# Altium schematic symbol library KwantLib.SchLib: 323 symbols (part 2 of 3)
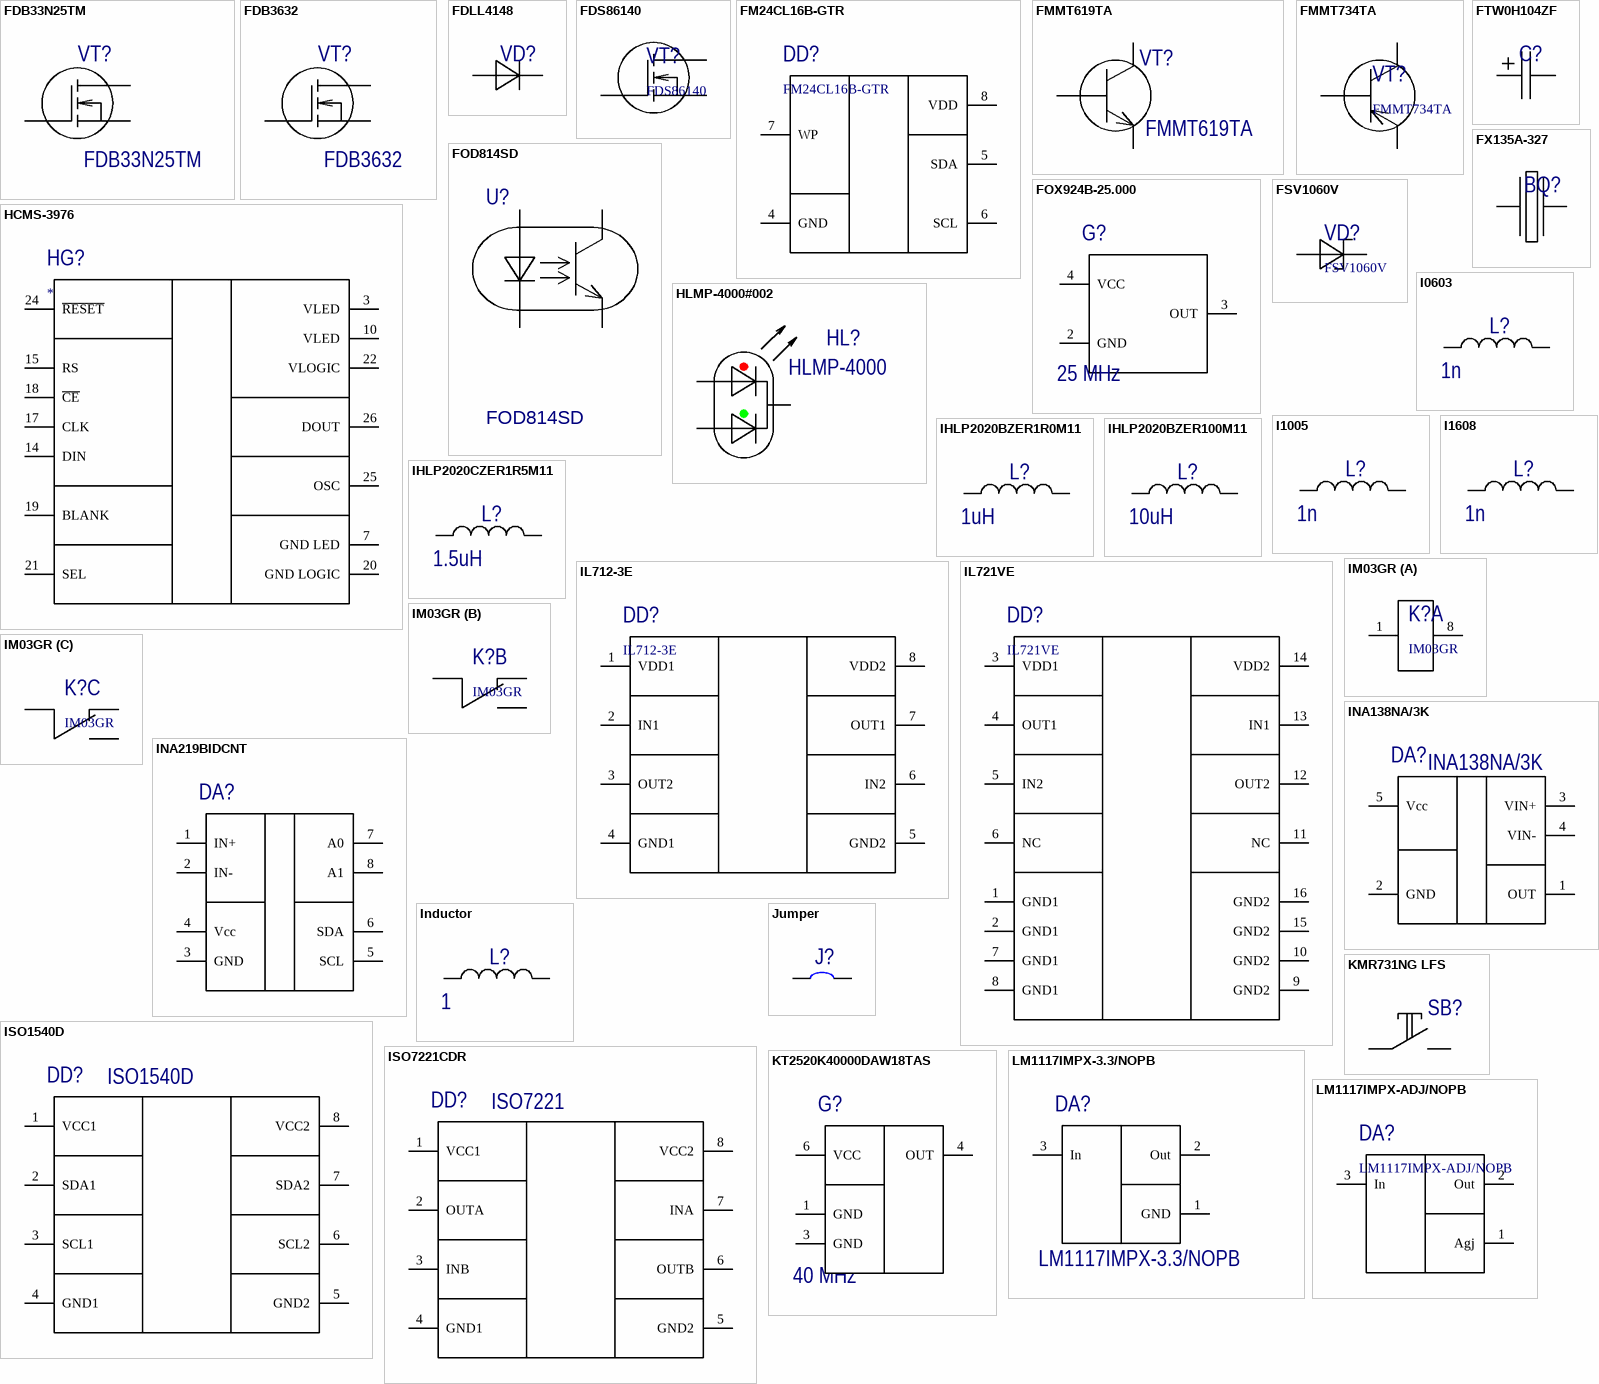
[diagram p17: symbols FDB33N25TM to LM1117IMPX-ADJ/NOPB]

## IHLP2020CZER1R5M11
designator L?  value 1.5uH  (hidden comment: IHLP2020CZER1R5M11)
1.5 uH Inductor Vishai; Tolerance: ±5%; Current: *; PartNo: IHLP2020CZER1R5M11; Supplier 1: Digi-Key; Supplier Part Number 1: 541-1235-1-ND
footprint IHLP2020CZ
pins: 1, 2

## IL712-3E
designator DD?
Цифровой изолятор; PartNo: IL712-3E; Supplier 1: Digi-Key; Supplier Part Number 1: 390-1061-5-ND
footprint SOIC127P600X175-8N (SOIC, 8-Leads, Body 4.90x3.90mm, Pitch 1.27mm, IPC Medium Density)
pins: 1 VDD1 (power), 2 IN1, 3 OUT2, 4 GND1, 5 GND2 (power), 6 IN2, 7 OUT1, 8 VDD2 (power)

## IL721VE
designator DD?
Цифровой изолятор; PartNo: *; Supplier 1: Digi-Key; Supplier Part Number 1: 390-1171-5-ND
footprint SOIC127P1030X250-16N (SOIC, 16-Leads, Body 10.29x7.50mm, Pitch 1.27mm, IPC Medium Density)
pins: 1 GND1, 2 GND1, 3 VDD1, 4 OUT1, 5 IN2, 6 NC, 7 GND1, 8 GND1, 9 GND2, 10 GND2, 11 NC, 12 OUT2, 13 IN1, 14 VDD2, 15 GND2, 16 GND2

## IM03GR
designator K?
Реле сигнальное. 5В, 2А-250VAC; Supplier 1: Digi-Key; Supplier Part Number 1: PB1061CT-ND; PartNo: IM03GR
footprint IM03GR (Signal Relay)
part A pins: 1, 8
part B pins: 2, 3, 4
part C pins: 5, 6, 7

## INA138NA/3K
designator DA?
High-Side Measurement Current Shunt Monitor; PartNo: INA138NA/3K; Supplier 1: Digi-Key; Supplier Part Number 1: 296-17936-1-ND
footprint SOT95P280X145-5N (SOT23, 5-Leads, Body 2.90x2.80mm, Pitch 0.95mm, IPC Medium Density)
pins: 1 OUT, 2 GND, 3 VIN+, 4 VIN-, 5 Vcc

## INA219BIDCNT
designator DA?  (value not drawn)
Bidirectional Current/Power Monitor With I2C Interface; PartNo: INA219BIDCNT; Supplier 1: Digi-Key; Supplier Part Number 1: 296-27898-1-ND
footprint SOT23-8 (SOT23, 8-Leads, Body 2.90x2.80mm, Pitch 0.65mm, IPC Medium Density)
pins: 1 IN+, 2 IN-, 3 GND, 4 Vcc, 5 SCL, 6 SDA, 7 A0, 8 A1

## Inductor
designator L?  value 1  (hidden comment: *)
Current: *
pins: 1, 2

## ISO1540D
designator DD?
Цифровой изолятор I2C; PartNo: ISO1540D; Supplier 1: Digi-Key; Supplier Part Number 1: 296-34896-5-ND
footprint SOIC127P600X175-8N (SOIC, 8-Leads, Body 4.90x3.90mm, Pitch 1.27mm, IPC Medium Density)
pins: 1 VCC1 (power), 2 SDA1, 3 SCL1, 4 GND1, 5 GND2 (power), 6 SCL2, 7 SDA2, 8 VCC2 (power)

## ISO7221CDR
designator DD?, comment ISO7221
Цифровой изолятор; PartNo: ISO7221CDR; Supplier 1: Digi-Key; Supplier Part Number 1: 296-21956-1-ND
footprint SOIC127P600X175-8N (SOIC, 8-Leads, Body 4.90x3.90mm, Pitch 1.27mm, IPC Medium Density)
pins: 1 VCC1 (power), 2 OUTA, 3 INB, 4 GND1, 5 GND2 (power), 6 OUTB, 7 INA, 8 VCC2 (power)
1 alternate drawing of the same symbol

## Jumper
designator J?  (value not drawn)
footprint Jumper_5
footprint Jumper_6
footprint Jumper_7
footprint Jumper_8
footprint Jumper_9
footprint Jumper_10
footprint Jumper_11
footprint Jumper_12
footprint Jumper_13
footprint Jumper_14
footprint Jumper_15
footprint Jumper_16
footprint Jumper_17
footprint Jumper_18
footprint Jumper_19
footprint Jumper_20
footprint Jumper_31mm smd
footprint Jumper_29mm smd
footprint Jumper_30mm smd
pins: 1, 2

## KMR731NG LFS
designator SB?  (value not drawn)
Tactile Switch SPST-NO Top Actuated Surface Mount Description Tactile Switch SPST-NO Top Actuated Surface Mount; Manufacturer: ITT C&K; Mechanical Life: 150000Cycles; Illumination Type: Non-Illuminated; Operating Force: 300gf; Throw Configuration: SPST; Switch Function: Off-Mom; Actuator Type: Standard; Ratings: Dust Tight,IP67,Waterproof; Supplier 1: Digi-Key; Manufacturer Part Number: KMR731NGLFS; Stock 1: 0; Mount: Surface Mount; Min Operating Temperature: -40°C; Max Operating Temperature: 85°C; Packaging: Tape and Reel; Termination: Gull Wing; Supplier Part Number 1: CKN10687CT-ND; РКД Наименование: *
footprint KMR7 (Tactile button)
pins: 1, 2

## KT2520K40000DAW18TAS
designator G?  value 40 MHz  (hidden comment: KT2520K40000DAW18TAS)
TCXO 40 MHz; PartNo: KT2520K40000DAW18TAS; Supplier 1: Digi-Key; Supplier Part Number 1: 1253-1426-1-ND
footprint KT2520 (TCXO)
pins: 1 GND, 3 GND, 4 OUT, 6 VCC

## LM1117IMPX-3.3/NOPB
designator DA?
Positive voltage regulator; PartNo: *; Supplier 1: Digi-Key; Supplier Part Number 1: LM1117IMPX-3.3J/NOPBCT-ND
footprint SOT230P700X180-4N (SOT223, 4-Leads, Body 6.50x7.00mm (avg), Pitch 2.30mm, IPC Medium Density)
pins: 1 GND, 2 Out, 3 In

## LM1117IMPX-ADJ/NOPB
designator DA?
Positive voltage regulator; PartNo: *; Supplier 1: Digi-Key; Supplier Part Number 1: LM1117IMPX-ADJ/NOPBCT-ND
footprint SOT230P700X180-4N (SOT223, 4-Leads, Body 6.50x7.00mm (avg), Pitch 2.30mm, IPC Medium Density)
pins: 1 Agj, 2 Out, 3 In

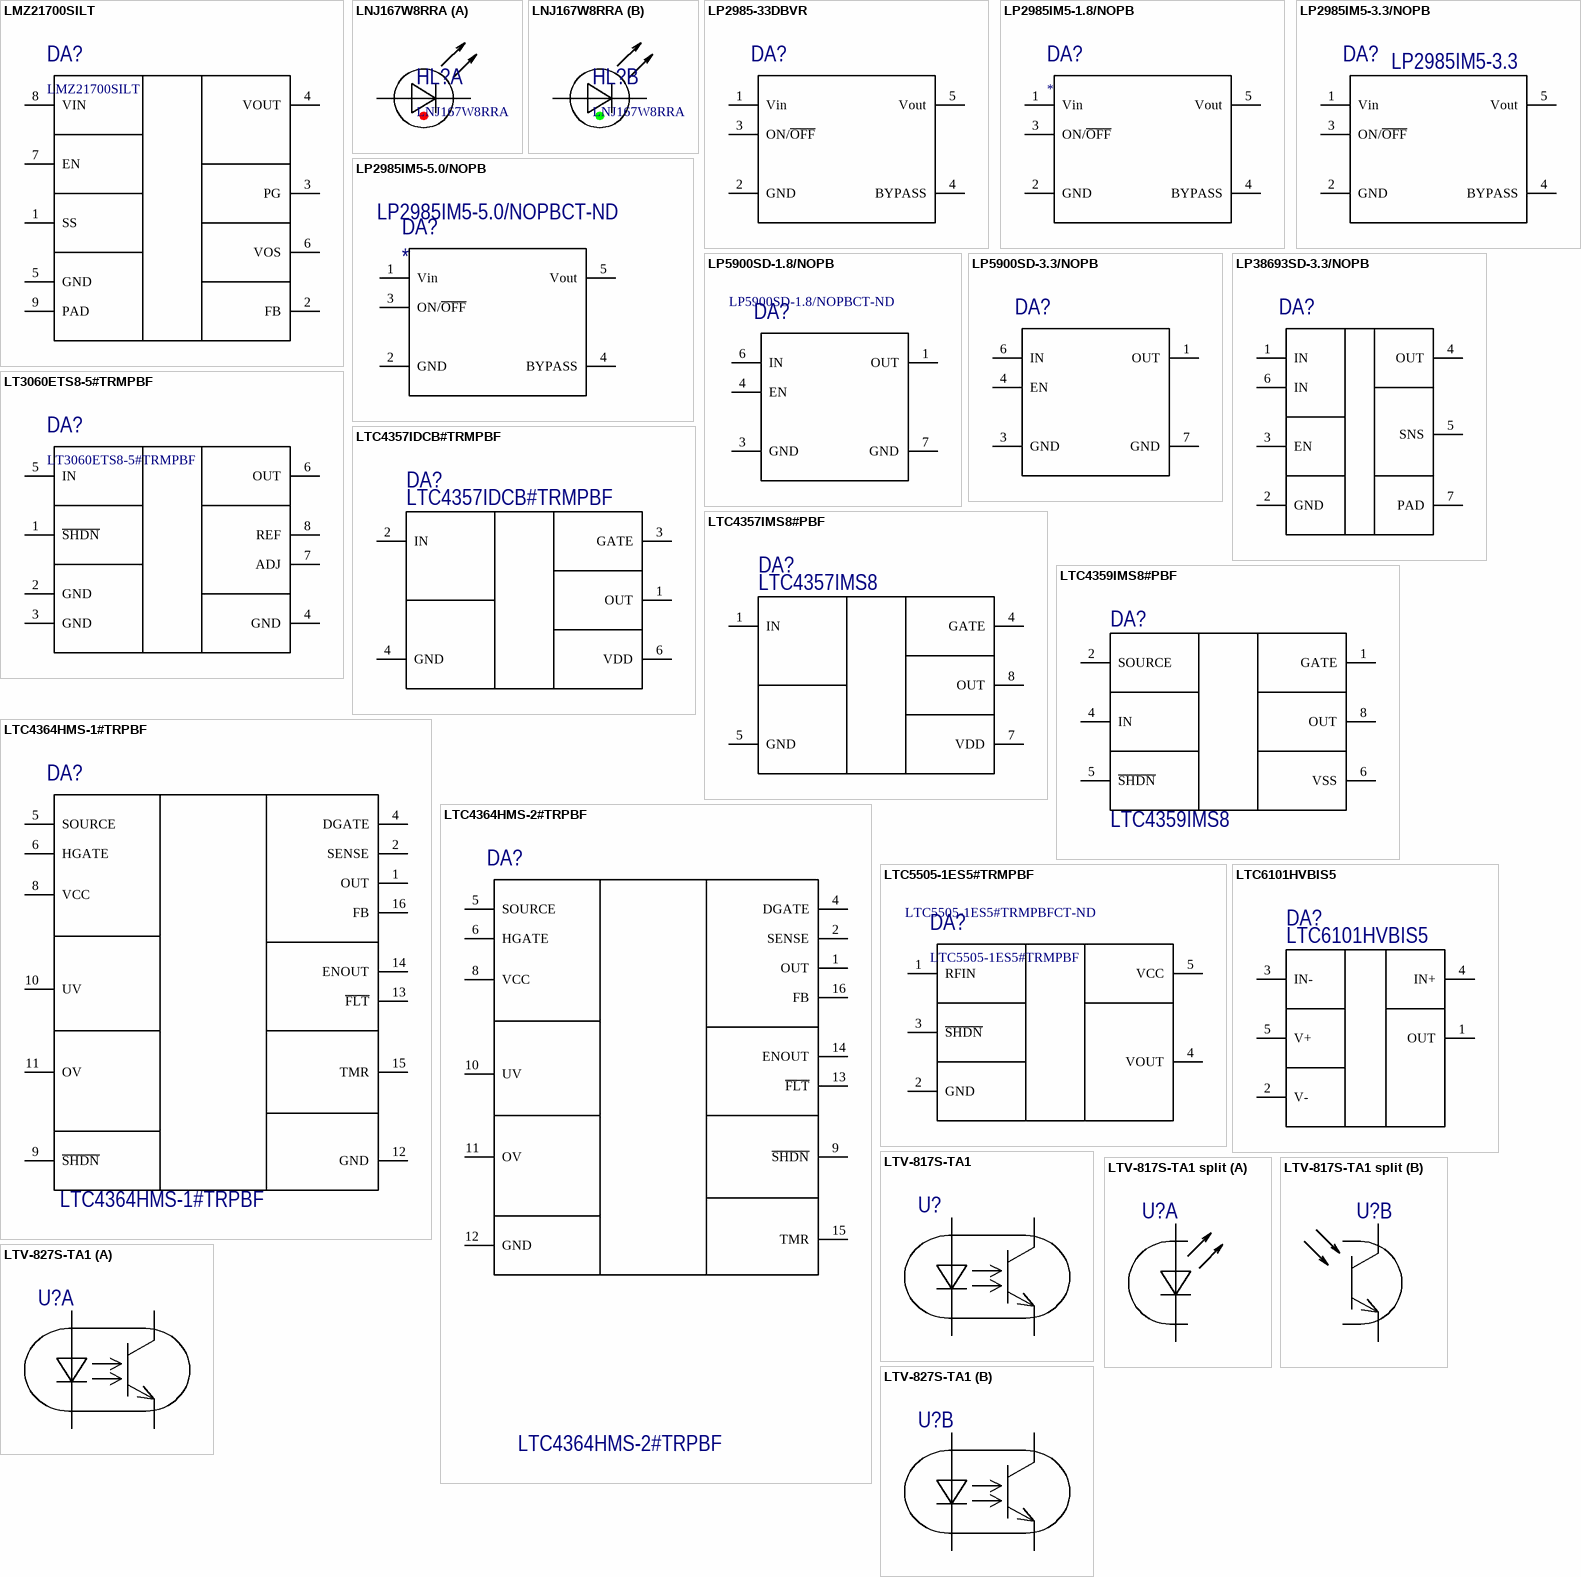
[diagram p5: symbols LMZ21700SILT to LTV-827S-TA1]

## LMZ21700SILT
designator DA?
DC PoL. 3-17 Vin, 0.9-6 Vout; Supplier 1: Digi-Key; Supplier Part Number 1: 296-38544-1-ND; PartNo: *
footprint MicroSiP
pins: 1 SS, 2 FB, 3 PG, 4 VOUT, 5 GND, 6 VOS, 7 EN, 8 VIN, 9 PAD

## LNJ167W8RRA
designator HL?
Светодиод двухцветный; PartNo: LNJ167W8RRA; Digikey: *; Supplier 1: Digi-Key; Supplier Part Number 1: P17003CT-ND
footprint LNJ167_LED
part A pins: 1 A1, 4 C1
part B pins: 2 A2, 3 C2
1 alternate drawing of the same symbol

## LP2985-33DBVR
designator DA?  (value not drawn)
LDO 3.3V; PartNo: *; Supplier 1: Digi-Key; Supplier Part Number 1: 296-18476-1-ND
footprint SOT95P280X145-5N (SOT23, 5-Leads, Body 2.90x2.80mm, Pitch 0.95mm, IPC Medium Density)
pins: 1 Vin, 2 GND, 3 ON/~{OFF}, 4 BYPASS, 5 Vout

## LP2985IM5-1.8/NOPB
designator DA?
LDO 1.8V; PartNo: *; Supplier 1: Digi-Key; Supplier Part Number 1: LP2985IM5-1.8/NOPBCT-ND
footprint SOT95P280X145-5N (SOT23, 5-Leads, Body 2.90x2.80mm, Pitch 0.95mm, IPC Medium Density)
pins: 1 Vin, 2 GND, 3 ON/~{OFF}, 4 BYPASS, 5 Vout

## LP2985IM5-3.3/NOPB
designator DA?, comment LP2985IM5-3.3
LDO 3.3V; PartNo: *; Supplier 1: Digi-Key; Supplier Part Number 1: LP2985IM5-3.3/NOPBCT-ND
footprint SOT95P280X145-5N (SOT23, 5-Leads, Body 2.90x2.80mm, Pitch 0.95mm, IPC Medium Density)
pins: 1 Vin, 2 GND, 3 ON/~{OFF}, 4 BYPASS, 5 Vout

## LP2985IM5-5.0/NOPB
designator DA?  Supplier Part Number 1: LP2985IM5-5.0/NOPBCT-ND
LDO 5.0V; PartNo: *; Supplier 1: Digi-Key
footprint SOT95P280X145-5N (SOT23, 5-Leads, Body 2.90x2.80mm, Pitch 0.95mm, IPC Medium Density)
pins: 1 Vin, 2 GND, 3 ON/~{OFF}, 4 BYPASS, 5 Vout

## LP5900SD-1.8/NOPB
designator DA?  Supplier Part Number 1: LP5900SD-1.8/NOPBCT-ND  (hidden comment: LP5900SD-1.8/NOPB)
LDO 1.8V; PartNo: LP5900SD-1.8/NOPB; Supplier 1: Digi-Key
footprint WSON6
pins: 1 OUT, 3 GND, 4 EN, 6 IN, 7 GND

## LP5900SD-3.3/NOPB
designator DA?  (value not drawn)
LDO 3.3V; PartNo: *; Supplier 1: Digi-Key; Supplier Part Number 1: LP5900SDX-3.3/NOPBCT-ND
footprint WSON6
pins: 1 OUT, 3 GND, 4 EN, 6 IN, 7 GND

## LP38693SD-3.3/NOPB
designator DA?, comment LP38693SD-3.3  (value not drawn)
LDO 3.3V; PartNo: *; Supplier 1: Digi-Key; Supplier Part Number 1: LP38693SD-3.3/NOPBCT-ND
footprint SON95P300X80_HS-7N (SON, 6-Leads, Body 3.00x3.00mm, Pitch 0.95mm, Thermal Pad 2.10x1.49mm, IPC Medium Density)
pins: 1 IN, 2 GND, 3 EN, 4 OUT, 5 SNS, 6 IN, 7 PAD

## LT3060ETS8-5#TRMPBF
designator DA?
LDO 5V, up to 45 Vin; Supplier 1: *; Supplier Part Number 1: *; PartNo: *
pins: 1 ~{SHDN}, 2 GND, 3 GND, 4 GND, 5 IN, 6 OUT, 7 ADJ, 8 REF

## LTC4357IDCB#TRMPBF
designator DA?
Positive High Voltage Ideal Diode Controller; PartNo: LTC4357IDCB#TRMPBF; Supplier 1: Digi-Key; Supplier Part Number 1: LTC4357IDCB#TRMPBFCT-ND
footprint QFN50P200X300X75_HS-7N (QFN, 6-Leads, Body 2.00x3.00mm, Pitch 0.50mm, Thermal Pad 1.35x1.65mm, IPC Medium Density)
pins: 1 OUT, 2 IN, 3 GATE, 4 GND, 6 VDD

## LTC4357IMS8#PBF
designator DA?, comment LTC4357IMS8
Positive High Voltage Ideal Diode Controller; PartNo: LTC4357IMS8#PBF; Supplier 1: Digi-Key; Supplier Part Number 1: LTC4357IMS8#PBF-ND
footprint TSOP65P490X86-8N (TSOP, 8-Leads, Body 3.00x3.00mm, Pitch 0.65mm, IPC Medium Density)
pins: 1 IN, 4 GATE, 5 GND, 7 VDD, 8 OUT

## LTC4359IMS8#PBF
designator DA?, comment LTC4359IMS8
Positive High Voltage Ideal Diode Controller; Manufacturer: Analog Devices / Linear Technology; Manufacturer Part Number: LTC4359IMS8#PBF; Max Supply Voltage: 80V; Max Output Current: 180mA; Min Supply Voltage: 4V; Number of Outputs: 1; Nominal Supply Current: 150uA; Turn-Off Delay Time: 500ns; ComponentLink1URL: http://www.linear.com/docs/41608?src-supplier=Digi-Key; ComponentLink1Description: http://www.linear.com/docs/41608?src-supplier=Digi-Key; Supplier 1: Digi-Key; Stock 1: 8635; Pricing 1: 1=5.87, 25=3.8944, 100=3.22, 250=3.059, 500=2.99 (USD); Case/Package: MSOP; Number of Pins: 8; Min Operating Temperature: -40°C; Max Operating Temperature: 85°C; Package Quantity: 50; Number of Drivers: 1; Lead Free: Lead Free; ComponentLink2URL: http://www.linear.com/docs/44087?src-supplier=Digi-Key; ComponentLink2Description: http://www.linear.com/docs/44087?src-supplier=Digi-Key; Supplier Part Number 1: LTC4359IMS8#PBF-ND
footprint TSOP65P490X86-8N (TSOP, 8-Leads, Body 3.00x3.00mm, Pitch 0.65mm, IPC Medium Density)
pins: 1 GATE, 2 SOURCE, 4 IN, 5 ~{SHDN}, 6 VSS, 8 OUT

## LTC4364HMS-1#TRPBF
designator DA?
IC SURGE STOPPER W/DIODE 16MSOP; Manufacturer: Analog Devices / Linear Technology; Working Voltage: 80V; Number of Circuits: 1; Supplier 1: Digikey; Manufacturer Part Number: LTC4364HMS-1#TRPBF; Stock 1: 1812; Pricing 1: 1=11.56, 25=8.4752, 100=6.3448, 250=6.0276, 500=5.8916 (USD); Case/Package: TFSOP; Number of Pins: 16; Package Quantity: 2500; Packaging: Tape and Reel; Supplier Part Number 1: LTC4364HMS-1#TRPBFCT-ND
footprint TSSOP50P490X110-16N (TSSOP, 16-Leads, Body 4.04x3.00mm, Pitch 0.50mm, IPC Medium Density)
pins: 1 OUT, 2 SENSE, 4 DGATE, 5 SOURCE, 6 HGATE, 8 VCC, 9 ~{SHDN}, 10 UV, 11 OV, 12 GND, 13 ~{FLT}, 14 ENOUT, 15 TMR, 16 FB

## LTC4364HMS-2#TRPBF
designator DA?
IC SURGE STOPPER W/DIODE 16MSOP; Manufacturer: Analog Devices / Linear Technology; Working Voltage: 80V; Number of Circuits: 1; Supplier 1: Digi-Key; Manufacturer Part Number: LTC4364HMS-2#TRPBF; Stock 1: 4602; Pricing 1: 1=11.56, 25=8.4752, 100=6.3448, 250=6.0276, 500=5.8916 (USD); Case/Package: TFSOP; Number of Pins: 16; Package Quantity: 2500; Packaging: Tape and Reel; Supplier Part Number 1: LTC4364HMS-2#TRPBFCT-ND
footprint TSSOP50P490X110-16N (TSSOP, 16-Leads, Body 4.04x3.00mm, Pitch 0.50mm, IPC Medium Density)
pins: 1 OUT, 2 SENSE, 4 DGATE, 5 SOURCE, 6 HGATE, 8 VCC, 9 ~{SHDN}, 10 UV, 11 OV, 12 GND, 13 ~{FLT}, 14 ENOUT, 15 TMR, 16 FB

## LTC5505-1ES5#TRMPBF
designator DA?  Supplier Part Number 1: LTC5505-1ES5#TRMPBFCT-ND
RF Power Detector; PartNo: *; Supplier 1: Digi-Key
footprint TSOT-23 (SOT23, 5-Leads, Body 2.90x2.80mm, Pitch 0.95mm, IPC Medium Density)
pins: 1 RFIN, 2 GND, 3 ~{SHDN}, 4 VOUT, 5 VCC

## LTC6101HVBIS5
designator DA?
High voltage, high-side current sense amplifier; Supplier 1: Digi-Key; Supplier Part Number 1: LTC6101HVBIS5#TRMPBFCT-ND; PartNo: *
footprint SOT95P280X100-5N (SOT23, 5-Leads, Body 2.90x2.80mm, Pitch 0.95mm, IPC Medium Density)
pins: 1 OUT, 2 V-, 3 IN-, 4 IN+, 5 V+

## LTV-817S-TA1
designator U?  (value not drawn)
OPTOISOLATR 5KV TRANSISTOR 4-SMD; Manufacturer: Vishay Lite-On; Collector Emitter Voltage (VCEO): 35V; Forward Voltage: 1.4V; Forward Current: 50mA; Collector Emitter Saturation Voltage: 200mV; Current Transfer Ratio: 600%; Reverse Breakdown Voltage: 6V; Rise Time: 18000ns; Max Power Dissipation: 200mW; Number of Channels: 1; Element Configuration: Single; Supplier 1: Digi-Key; Manufacturer Part Number: LTV-817S-TA1; Stock 1: 155796; Pricing 1: 1=0.51, 10=0.369, 25=0.3016, 100=0.2411, 250=0.2034, 500=0.1733 (USD); Mount: Surface Mount; Case/Package: SMD/SMT; Number of Pins: 4; Min Operating Temperature: -30°C; Max Operating Temperature: 110°C; Packaging: Tape and Reel; Package Quantity: 1000; Output Current per Channel: 50mA; Max Collector Current: 50mA; Max Output Voltage: 35V; Number of Elements: 1; Power Dissipation: 200mW; Fall Time: 18000ns; Max Input Current: 50mA; Isolation Voltage: 5kV; Output Voltage: 35V; Number of Circuits: 1; Radiation Hardening: No; Lead Free: Lead Free; ComponentLink1URL: http://www.jameco.com/Jameco/Products/ProdDS/790719.pdf?src-supplier=Jameco; ComponentLink1Description: http://www.jameco.com/Jameco/Products/ProdDS/790719.pdf?src-supplier=Jameco; ComponentLink2URL: http://www.mouser.com/ds/2/239/LTV-817-827-847-647.pdf?src-supplier=Mouser; ComponentLink2Description: http://www.mouser.com/ds/2/239/LTV-817-827-847-647.pdf?src-supplier=Mouser; ComponentLink3URL: http://optoelectronics.liteon.com/upload/download/DS-70-96-0016/LTV-8X7%20series%20201610%20.pdf?src-supplier=Digi-Key; ComponentLink3Description: http://optoelectronics.liteon.com/upload/download/DS-70-96-0016/LTV-8X7%20series%20201610%20.pdf?src-supplier=Digi-Key; ComponentLink4URL: http://www1.futureelectronics.com/doc/LITE-ON/LTV-817S-TA1.pdf?src-supplier=Future+Electronics; ComponentLink4Description: http://www1.futureelectronics.com/doc/LITE-ON/LTV-817S-TA1.pdf?src-supplier=Future+Electronics; ComponentLink5URL: https://www.verical.com/server-webapp/html/getDatasheet?partID=67872&src-supplier=Verical; ComponentLink5Description: https://www.verical.com/server-webapp/html/getDatasheet?partID=67872&src-supplier=Verical; Supplier Part Number 1: 160-1893-1-ND
footprint LTV-817M
pins: 1, 2, 3, 4

## LTV-817S-TA1 split
designator U?, comment LTV-817S-TA1  (value not drawn)
OPTOISOLATR 5KV TRANSISTOR 4-SMD; Manufacturer: Vishay Lite-On; Collector Emitter Voltage (VCEO): 35V; Forward Voltage: 1.4V; Forward Current: 50mA; Collector Emitter Saturation Voltage: 200mV; Current Transfer Ratio: 600%; Reverse Breakdown Voltage: 6V; Rise Time: 18000ns; Max Power Dissipation: 200mW; Number of Channels: 1; Element Configuration: Single; Supplier 1: Digi-Key; Manufacturer Part Number: LTV-817S-TA1; Stock 1: 155796; Pricing 1: 1=0.51, 10=0.369, 25=0.3016, 100=0.2411, 250=0.2034, 500=0.1733 (USD); Mount: Surface Mount; Case/Package: SMD/SMT; Number of Pins: 4; Min Operating Temperature: -30°C; Max Operating Temperature: 110°C; Packaging: Tape and Reel; Package Quantity: 1000; Output Current per Channel: 50mA; Max Collector Current: 50mA; Max Output Voltage: 35V; Number of Elements: 1; Power Dissipation: 200mW; Fall Time: 18000ns; Max Input Current: 50mA; Isolation Voltage: 5kV; Output Voltage: 35V; Number of Circuits: 1; Radiation Hardening: No; Lead Free: Lead Free; ComponentLink1URL: http://www.jameco.com/Jameco/Products/ProdDS/790719.pdf?src-supplier=Jameco; ComponentLink1Description: http://www.jameco.com/Jameco/Products/ProdDS/790719.pdf?src-supplier=Jameco; ComponentLink2URL: http://www.mouser.com/ds/2/239/LTV-817-827-847-647.pdf?src-supplier=Mouser; ComponentLink2Description: http://www.mouser.com/ds/2/239/LTV-817-827-847-647.pdf?src-supplier=Mouser; ComponentLink3URL: http://optoelectronics.liteon.com/upload/download/DS-70-96-0016/LTV-8X7%20series%20201610%20.pdf?src-supplier=Digi-Key; ComponentLink3Description: http://optoelectronics.liteon.com/upload/download/DS-70-96-0016/LTV-8X7%20series%20201610%20.pdf?src-supplier=Digi-Key; ComponentLink4URL: http://www1.futureelectronics.com/doc/LITE-ON/LTV-817S-TA1.pdf?src-supplier=Future+Electronics; ComponentLink4Description: http://www1.futureelectronics.com/doc/LITE-ON/LTV-817S-TA1.pdf?src-supplier=Future+Electronics; ComponentLink5URL: https://www.verical.com/server-webapp/html/getDatasheet?partID=67872&src-supplier=Verical; ComponentLink5Description: https://www.verical.com/server-webapp/html/getDatasheet?partID=67872&src-supplier=Verical; Supplier Part Number 1: 160-1893-1-ND
footprint LTV-817M
part A pins: 1, 2
part B pins: 3, 4

## LTV-827S-TA1
designator U?  (value not drawn)
Optocoupler DC-IN 2-CH Transistor DC-OUT 8-Pin PDIP SMD T/R; Manufacturer: Vishay Lite-On; Number of Channels: 2; Collector Emitter Voltage (VCEO): 35V; Forward Voltage: 1.4V; Output Current per Channel: 50mA; Rise Time: 18000ns; Collector Emitter Saturation Voltage: 200mV; Current Transfer Ratio: 600%; Max Power Dissipation: 200mW; Isolation Voltage: 5kV; Reverse Breakdown Voltage: 6V; Supplier 1: Digi-Key; Manufacturer Part Number: LTV-827S-TA1; Stock 1: 71673; Pricing 1: 1=0.6, 10=0.468, 25=0.3896, 100=0.3357, 250=0.2998, 500=0.2578 (USD); Mount: Surface Mount; Case/Package: SMD/SMT; Number of Pins: 8; Min Operating Temperature: -30°C; Max Operating Temperature: 110°C; Packaging: Tape and Reel; Max Output Voltage: 35V; Package Quantity: 1000; Output Voltage: 35V; Number of Circuits: 2; Forward Current: 50mA; Max Collector Current: 50mA; Max Input Current: 50mA; Fall Time: 18000ns; Number of Elements: 2; Power Dissipation: 200mW; Radiation Hardening: No; Lead Free: Lead Free; ComponentLink1URL: https://media.digikey.com/pdf/Data%20Sheets/Lite-On%20PDFs/LTV-817_827_847(M,S,S_TA1).pdf?src-supplier=Digi-Key; ComponentLink1Description: https://media.digikey.com/pdf/Data%20Sheets/Lite-On%20PDFs/LTV-817_827_847(M,S,S_TA1).pdf?src-supplier=Digi-Key; ComponentLink2URL: http://www.us.liteon.com/downloads/LTV-817-827-847.PDF?src-supplier=Future+Electronics; ComponentLink2Description: http://www.us.liteon.com/downloads/LTV-817-827-847.PDF?src-supplier=Future+Electronics; ComponentLink3URL: http://www.mouser.com/ds/2/239/LTV-817-827-847-647.pdf?src-supplier=Mouser; ComponentLink3Description: http://www.mouser.com/ds/2/239/LTV-817-827-847-647.pdf?src-supplier=Mouser; ComponentLink4URL: https://www.verical.com/server-webapp/html/getDatasheet?partID=293602&src-supplier=Verical; ComponentLink4Description: https://www.verical.com/server-webapp/html/getDatasheet?partID=293602&src-supplier=Verical; Supplier Part Number 1: 160-2040-1-ND
footprint LTV-827S
part A pins: 1 A1, 2 C1, 7 E1, 8 C1
part B pins: 3 A2, 4 C2, 5 E2, 6 C2

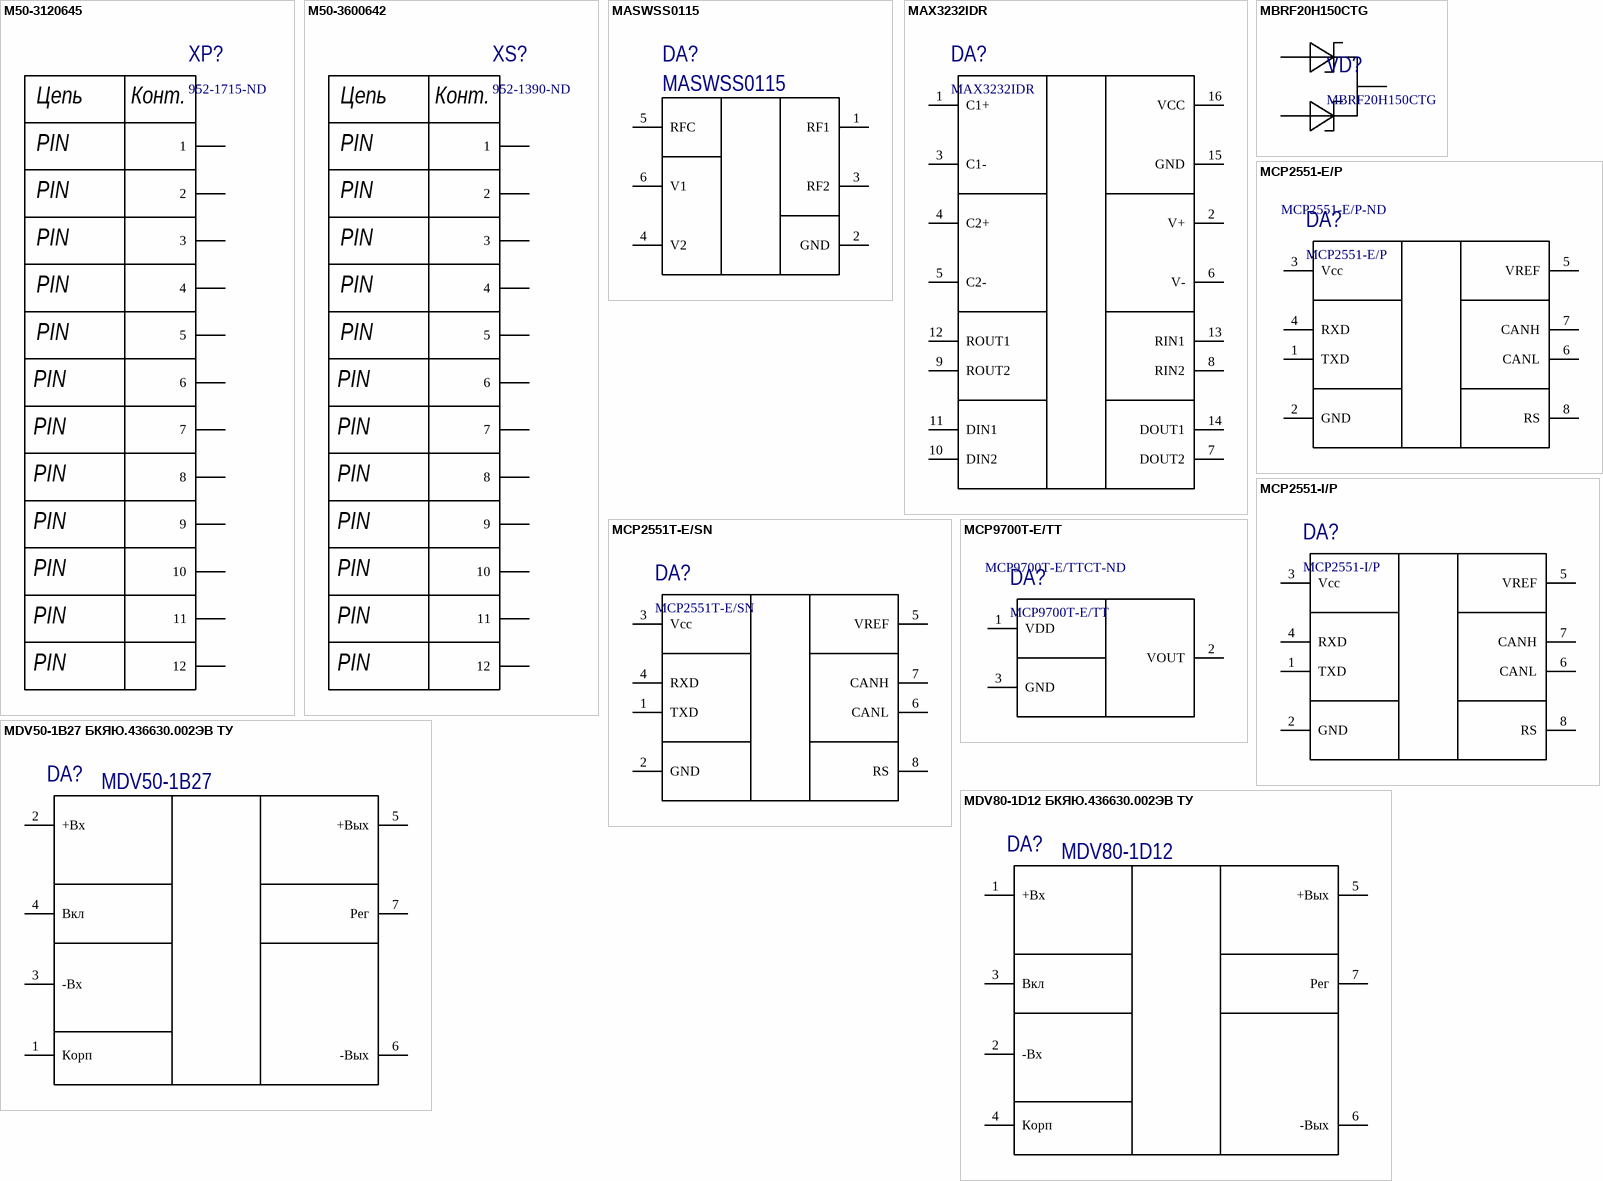
[diagram p6: symbols M50-3120645 to MDV80-1D12 БКЯЮ.436630.002ЭВ ТУ]

## M50-3120645
designator XP?, comment 952-1715-ND
M50-3120645; PartNo: 952-1715-ND; Supplier 1: Digi-Key; Supplier Part Number 1: M50-3120645
footprint M50-3120645 (Harwin 1.27mm DIL Vertical SMT Socket)
pins: 1, 2, 3, 4, 5, 6, 7, 8, 9, 10, 11, 12
text: Цепь; Конт.; PIN

## M50-3600642
designator XS?, comment 952-1390-ND
M50-3600642; PartNo: 952-1390-ND; Supplier 1: Digi-Key; Supplier Part Number 1: M50-3600642
footprint M50-3600642 (Harwin 1.27mm DIL Vertical SMT Pin Header)
pins: 1, 2, 3, 4, 5, 6, 7, 8, 9, 10, 11, 12
text: Цепь; Конт.; PIN

## MASWSS0115
designator DA?
RF Switch DC-3.0 GHz; PartNo: *; Supplier 1: Digi-Key; Supplier Part Number 1: 1465-1373-1-ND
footprint SOT65P210X100-6N (SC70-6, SOT323, 6-Leads, Body 2.00x2.10mm, Pitch 0.65mm, IPC Medium Density)
pins: 1 RF1, 2 GND, 3 RF2, 4 V2, 5 RFC, 6 V1

## MAX3232IDR
designator DA?
3-V to 5.5-V RS-232 Line Driver/Receiver; PartNo: MAX3232IDR; Supplier 1: Digi-Key; Supplier Part Number 1: 296-13098-1-ND
footprint SOIC127P600X175-16N (SOIC, 16-Leads, Body 9.90x3.90mm, Pitch 1.27mm, IPC Medium Density)
pins: 1 C1+, 2 V+, 3 C1-, 4 C2+, 5 C2-, 6 V-, 7 DOUT2, 8 RIN2, 9 ROUT2, 10 DIN2, 11 DIN1, 12 ROUT1, 13 RIN1, 14 DOUT1, 15 GND, 16 VCC

## MBRF20H150CTG
designator VD?
Сборка диодов Шоттки, общий катод; Supplier 1: Digi-Key; PartNo: MBRF20H150CTG; Supplier Part Number 1: MBRF20H150CTGOS-ND
pins: 1, 2, 3

## MCP2551-E/P
designator DA?  Supplier Part Number 1: MCP2551-E/P-ND
CAN tranceiver; PartNo: *; Supplier 1: Digi-Key
pins: 1 TXD, 2 GND, 3 Vcc, 4 RXD, 5 VREF, 6 CANL, 7 CANH, 8 RS

## MCP2551-I/P
designator DA?
CAN tranceiver; PartNo: MCP2551-I/P; Supplier 1: Digi-Key; Supplier Part Number 1: MCP2551-I/P-ND
pins: 1 TXD, 2 GND, 3 Vcc, 4 RXD, 5 VREF, 6 CANL, 7 CANH, 8 RS

## MCP2551T-E/SN
designator DA?
CAN tranceiver; PartNo: MCP2551T-E/SN; Supplier 1: Digi-Key; Supplier Part Number 1: MCP2551T-E/SNCT-ND
footprint SOIC127P600X175-8N (SOIC, 8-Leads, Body 4.90x3.90mm, Pitch 1.27mm, IPC Medium Density)
pins: 1 TXD, 2 GND, 3 Vcc, 4 RXD, 5 VREF, 6 CANL, 7 CANH, 8 RS

## MCP9700T-E/TT
designator DA?  Supplier Part Number 1: MCP9700T-E/TTCT-ND
Temperature sensor; PartNo: *; Supplier 1: Digi-Key
footprint SOT95P232X100-3N (SOT23, 3-Leads, Body 2.92x2.32mm, Pitch 0.95mm, IPC Medium Density)
pins: 1 VDD, 2 VOUT, 3 GND

## MDV50-1B27 БКЯЮ.436630.002ЭВ ТУ
designator DA?, comment MDV50-1B27
DC-DC преобразователь, 10.5-36В вх, 27В вых, 50 Вт; PartNo: MDV80-1D12 БКЯЮ.436630.002ЭВ ТУ
footprint MDV-50 (АЕДОН MDV50)
pins: 1 Корп, 2 +Вх, 3 -Вх, 4 Вкл, 5 +Вых, 6 -Вых, 7 Рег

## MDV80-1D12 БКЯЮ.436630.002ЭВ ТУ
designator DA?, comment MDV80-1D12
DC-DC преобразователь, 60В вх, 12В вых, 80 Вт; PartNo: MDVi80-1D12
footprint MDVi80-1D12 (АЕДОН источник питания)
pins: 1 +Вх, 2 -Вх, 3 Вкл, 4 Корп, 5 +Вых, 6 -Вых, 7 Рег

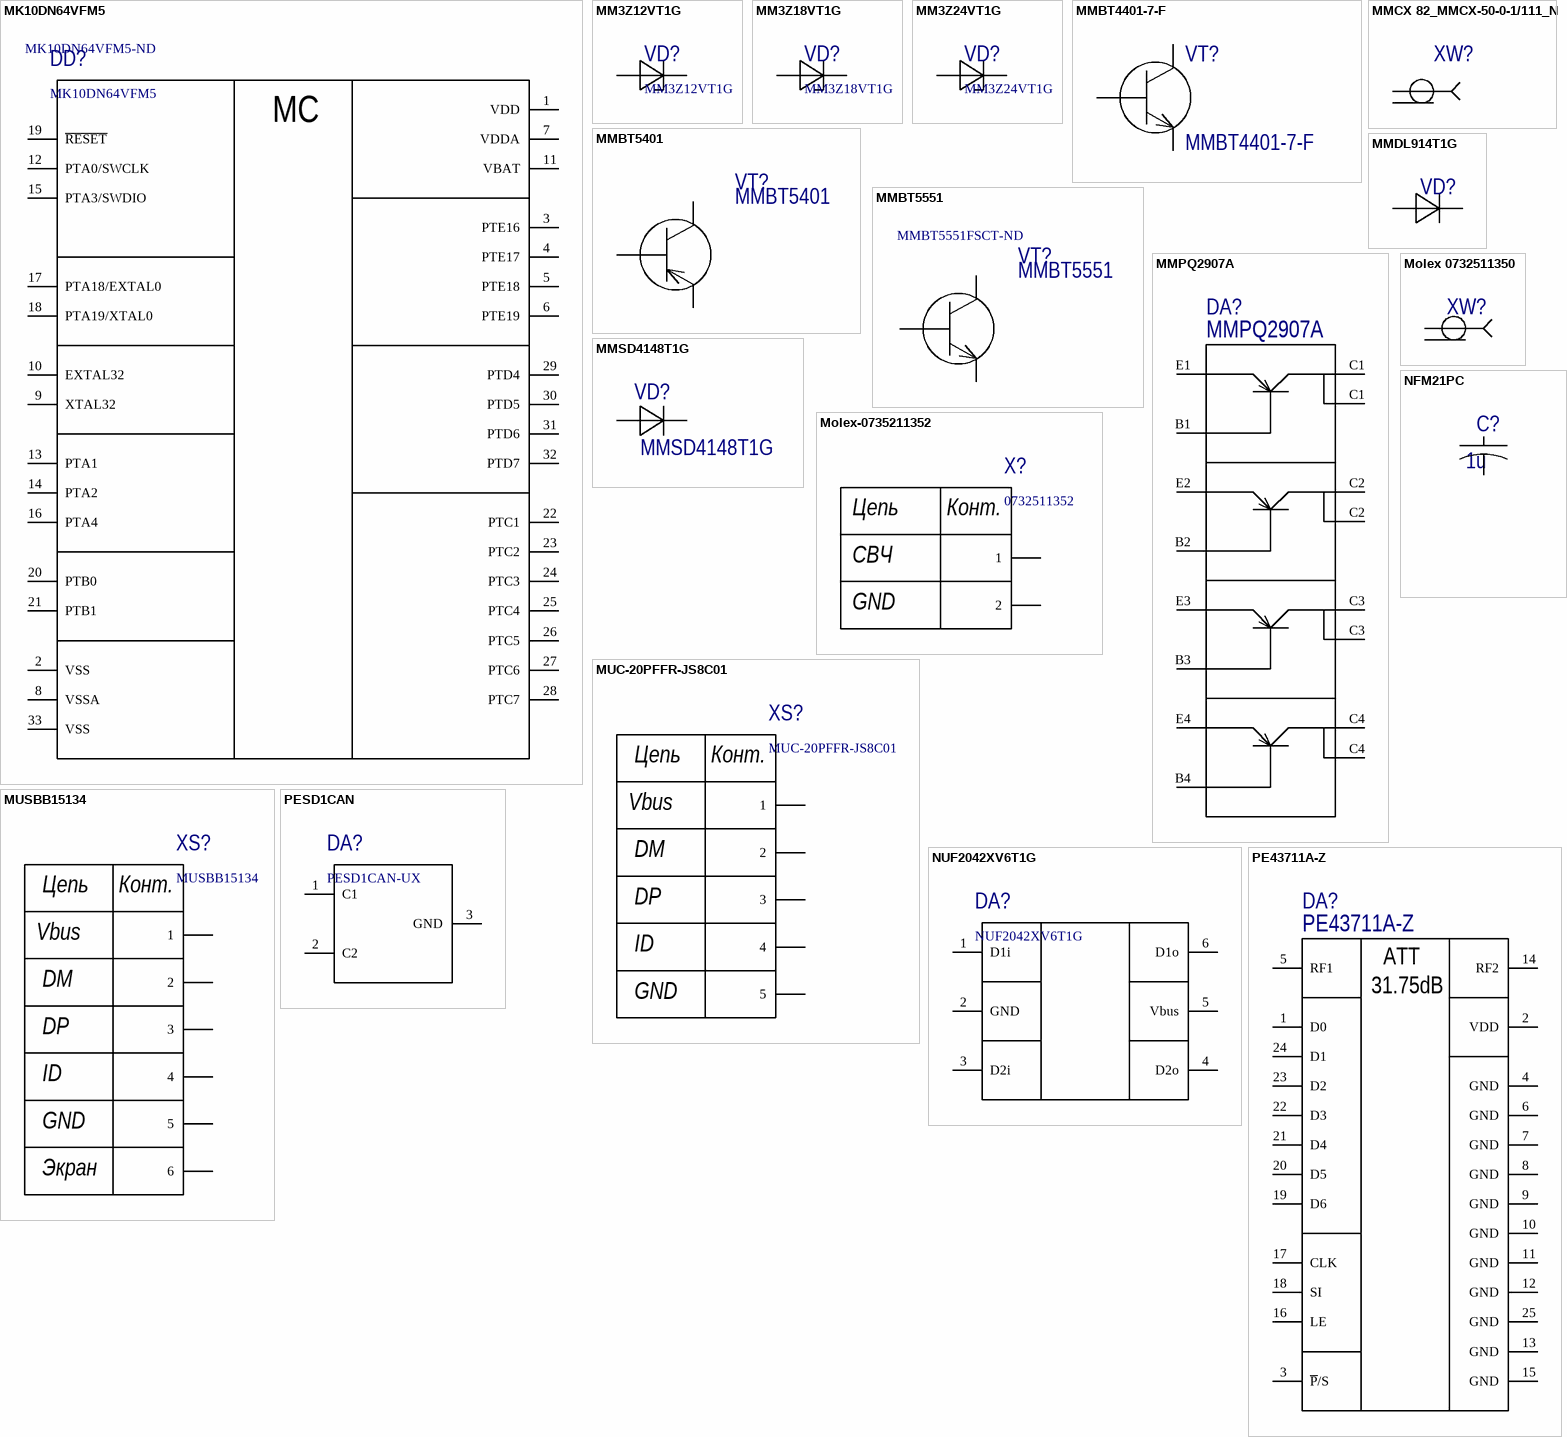
[diagram p7: symbols MK10DN64VFM5 to PESD1CAN]

## MK10DN64VFM5
designator DD?  Supplier Part Number 1: MK10DN64VFM5-ND
Cortex-M4 MCU; PartNo: *; Supplier 1: Digi-Key
footprint QFN50P500X500X100_HS-33N (QFN, 32-Leads, Body 5.00x5.00mm, Pitch 0.50mm, Thermal Pad 3.65x3.65mm, IPC Medium Density)
pins: 1 VDD, 2 VSS, 3 PTE16, 4 PTE17, 5 PTE18, 6 PTE19, 7 VDDA, 8 VSSA, 9 XTAL32, 10 EXTAL32, 11 VBAT, 12 PTA0/SWCLK, 13 PTA1, 14 PTA2, 15 PTA3/SWDIO, 16 PTA4, 17 PTA18/EXTAL0, 18 PTA19/XTAL0, 19 ~{RESET}, 20 PTB0, 21 PTB1, 22 PTC1, 23 PTC2, 24 PTC3, 25 PTC4, 26 PTC5, 27 PTC6, 28 PTC7, 29 PTD4, 30 PTD5, 31 PTD6, 32 PTD7, 33 VSS
text: MC

## MM3Z12VT1G
designator VD?
Zener 12V; Tolerance: 11.4V - 12.6V; PartNo: MM3Z12VT1G; Supplier 1: Digi-Key; Supplier Part Number 1: MM3Z12VT1GOSCT-ND; Vzener: 12V
footprint SOD323 (Diode 1.7x1.25 mm)
pins: 1, 2

## MM3Z18VT1G
designator VD?
Zener 18V; Tolerance: 16.8V - 19.1V; PartNo: MM3Z18VT1G; Supplier 1: Digi-Key; Supplier Part Number 1: MM3Z18VT1GOSCT-ND; Vzener: 18V
footprint SOD323 (Diode 1.7x1.25 mm)
pins: 1, 2

## MM3Z24VT1G
designator VD?
Zener 24V; Tolerance: 22.8V - 25.6V; PartNo: MM3Z24VT1G; Supplier 1: Digi-Key; Supplier Part Number 1: MM3Z24VT1GOSCT-ND; Vzener: 24V
footprint SOD323 (Diode 1.7x1.25 mm)
pins: 1, 2

## MMBT4401-7-F
designator VT?
TRANS NPN 40V 0.6A SMD SOT23-3; Manufacturer: Diodes; Max Power Dissipation: 300mW; Max Collector Current: 600mA; Collector Base Voltage (VCBO): 60V; Frequency: 250MHz; hFE Min: 100; Number of Elements: 1; Emitter Base Voltage (VEBO): 6V; Collector Emitter Saturation Voltage: 750mV; Power Dissipation: 310mW; Element Configuration: Single; Supplier 1: Digi-Key; Manufacturer Part Number: MMBT4401-7-F; Stock 1: 416046; Pricing 1: 1=0.15, 10=0.134, 100=0.0729, 500=0.04486, 1000=0.03059 (USD); Mount: Surface Mount; Case/Package: SOT-23; Number of Pins: 3; Weight: 0.000282oz; Contact Plating: Matte,Tin; Min Operating Temperature: -55°C; Max Operating Temperature: 150°C; Collector Emitter Voltage (VCEO): 40V; Polarity: NPN; Packaging: Tape and Reel; Package Quantity: 3000; Transition Frequency: 250MHz; Collector Emitter Breakdown Voltage: 40V; Max Breakdown Voltage: 40V; Continuous Collector Current: 600mA; Max Frequency: 250MHz; Gain Bandwidth Product: 250MHz; Voltage Rating (DC): 40V; Length: 3.05mm; Height: 1mm; Width: 1.4mm; Radiation Hardening: No; REACH SVHC: No SVHC; Lead Free: Lead Free; Supplier Part Number 1: MMBT4401-FDICT-ND; РКД Наименование: *
footprint SOT95P232X100-3N (SOT23, 3-Leads, Body 2.92x2.32mm, Pitch 0.95mm, IPC Medium Density)
pins: 1 B, 2 E, 3 C

## MMBT5401
designator VT?
PNP Epitaxial Silicon Transistor; Voltage: 150V; Current: 0.6A; PartNo: MMBT5401; Supplier 1: Digi-Key; Supplier Part Number 1: MMBT5401FSCT-ND
footprint SOT95P232X100-3N (SOT23, 3-Leads, Body 2.92x2.32mm, Pitch 0.95mm, IPC Medium Density)
pins: 1 B, 2 E, 3 C

## MMBT5551
designator VT?  Supplier Part Number 1: MMBT5551FSCT-ND
NPN Epitaxial Silicon Transistor; Manufacturer: ON Semiconductor / Fairchild; Max Power Dissipation: 350mW; Collector Emitter Voltage (VCEO): 160V; Max Collector Current: 600mA; Collector Base Voltage (VCBO): 180V; Emitter Base Voltage (VEBO): 6V; Element Configuration: Single; Number of Elements: 1; hFE Min: 80; Collector Emitter Saturation Voltage: 200mV; Frequency: 300MHz; Transition Frequency: 100MHz; Supplier 1: Digi-Key; Manufacturer Part Number: MMBT5551; Stock 1: 25294; Pricing 1: 1=0.28, 10=0.233, 100=0.1233, 500=0.0811, 1000=0.0552 (USD); Mount: Surface Mount; Case/Package: SOT-23; Number of Pins: 3; Weight: 0.03g; Contact Plating: Matte,Tin; Min Operating Temperature: -55°C; Max Operating Temperature: 150°C; Packaging: Tape and Reel; Package Quantity: 1; Polarity: NPN; Collector Emitter Breakdown Voltage: 160V; Power Dissipation: 350mW; Max Breakdown Voltage: 160V; Voltage Rating (DC): 160V; Current Rating: 600mA; Max Frequency: 300MHz; Gain Bandwidth Product: 300MHz; Length: 2.92mm; Height: 0.93mm; Width: 1.3mm; Radiation Hardening: No; Lead Free: Lead Free; REACH SVHC: No SVHC; ComponentLink1URL: http://www.jameco.com/Jameco/Products/ProdDS/993751.pdf?src-supplier=Jameco; ComponentLink1Description: http://www.jameco.com/Jameco/Products/ProdDS/993751.pdf?src-supplier=Jameco; ComponentLink2URL: http://www.fairchildsemi.com/datasheets/2N/2N5551.pdf?src-supplier=Digi-Key; ComponentLink2Description: http://www.fairchildsemi.com/datasheets/2N/2N5551.pdf?src-supplier=Digi-Key; ComponentLink3URL: https://media.digikey.com/pdf/Data%20Sheets/ON%20Semiconductor%20PDFs/2N5551,MMBT5551.pdf?src-supplier=Digi-Key; ComponentLink3Description: https://media.digikey.com/pdf/Data%20Sheets/ON%20Semiconductor%20PDFs/2N5551,MMBT5551.pdf?src-supplier=Digi-Key; ComponentLink4URL: https://www.fairchildsemi.com/package-drawings/MA/MA03B.pdf?src-supplier=Digi-Key; ComponentLink4Description: https://www.fairchildsemi.com/package-drawings/MA/MA03B.pdf?src-supplier=Digi-Key; ComponentLink5URL: http://www.farnell.com/datasheets/2304847.pdf?src-supplier=Farnell; ComponentLink5Description: http://www.farnell.com/datasheets/2304847.pdf?src-supplier=Farnell; ComponentLink6URL: https://www.verical.com/server-webapp/html/getDatasheet?partID=38824&src-supplier=Verical; ComponentLink6Description: https://www.verical.com/server-webapp/html/getDatasheet?partID=38824&src-supplier=Verical; ComponentLink7URL: http://www.farnell.com/datasheets/2161617.pdf?src-supplier=Element14; ComponentLink7Description: http://www.farnell.com/datasheets/2161617.pdf?src-supplier=Element14; ComponentLink8URL: https://www.fairchildsemi.com/datasheets/MM/MMBT5551.pdf?src-supplier=Avnet; ComponentLink8Description: https://www.fairchildsemi.com/datasheets/MM/MMBT5551.pdf?src-supplier=Avnet; ComponentLink9URL: http://www.mouser.com/ds/2/149/MMBT5551-195822.pdf?src-supplier=Mouser; ComponentLink9Description: http://www.mouser.com/ds/2/149/MMBT5551-195822.pdf?src-supplier=Mouser; ComponentLink10URL: http://www.fairchildsemi.com/ds/MM/MMBT5551.pdf?src-supplier=Avnet+Europe; ComponentLink10Description: http://www.fairchildsemi.com/ds/MM/MMBT5551.pdf?src-supplier=Avnet+Europe
footprint SOT95P232X100-3N (SOT23, 3-Leads, Body 2.92x2.32mm, Pitch 0.95mm, IPC Medium Density)
pins: 1 B, 2 E, 3 C

## MMCX 82_MMCX-50-0-1/111_N
designator XW?
Разъем MMCX Huber Suhner
footprint MMCX-50-0-1/111 (Huber Suhner MMCX female, Vertical)
pins: 1, 2
1 alternate drawing of the same symbol

## MMDL914T1G
designator VD?  (value not drawn)
DIODE GEN PURP 100V 200MA SOD323; Manufacturer: ON Semiconductor; Max Surge Current: 500mA; Recovery Time: 4ns; Element Configuration: Single; Max Reverse Leakage Current: 5uA; Forward Voltage: 1V; Peak Reverse Current: 10mA; Power Dissipation: 200mW; Polarity: Standard; Capacitance: 4pF; Supplier 1: Digi-Key; Manufacturer Part Number: MMDL914T1G; Stock 1: 205136; Pricing 1: 1=0.13, 10=0.123, 100=0.067, 500=0.0412, 1000=0.0281 (USD); Case/Package: SOD-323-2; Number of Pins: 2; Contact Plating: Matte,Tin; Min Operating Temperature: -55°C; Max Operating Temperature: 150°C; Package Quantity: 3000; Forward Current: 200mA; Packaging: Tape and Reel; Average Rectified Current: 200mA; Reverse Recovery Time: 4ns; Peak Non-Repetitive Surge Current: 500mA; Max Repetitive Reverse Voltage (Vrrm): 100V; Max Reverse Voltage (DC): 100V; Max Forward Surge Current (Ifsm): 500mA; Voltage Rating (DC): 100V; Current Rating: 200mA; Output Current: 200mA; Length: 1.8mm; Height: 0.9mm; Width: 1.35mm; Radiation Hardening: No; Lead Free: Lead Free; Halogen Free: Halogen Free; REACH SVHC: No SVHC; ComponentLink1URL: http://www.onsemi.com/pub/Collateral/MMDL914T1-D.PDF?src-supplier=Digi-Key; ComponentLink1Description: http://www.onsemi.com/pub/Collateral/MMDL914T1-D.PDF?src-supplier=Digi-Key; ComponentLink2URL: http://www.onsemi.com/pub/Collateral/MMDL914T1-D.PDF?src-supplier=Future+Electronics; ComponentLink2Description: http://www.onsemi.com/pub/Collateral/MMDL914T1-D.PDF?src-supplier=Future+Electronics; ComponentLink3URL: http://www.farnell.com/datasheets/1918752.pdf?src-supplier=Element14; ComponentLink3Description: http://www.farnell.com/datasheets/1918752.pdf?src-supplier=Element14; ComponentLink4URL: http://www.onsemi.com/pub_link/Collateral/MMDL914T1-D.PDF?src-supplier=Element14; ComponentLink4Description: http://www.onsemi.com/pub_link/Collateral/MMDL914T1-D.PDF?src-supplier=Element14; ComponentLink5URL: http://www.onsemi.com/pub/Collateral/MMDL914T1-D.PDF?src-supplier=Avnet; ComponentLink5Description: http://www.onsemi.com/pub/Collateral/MMDL914T1-D.PDF?src-supplier=Avnet; ComponentLink6URL: http://www.jameco.com/Jameco/Products/ProdDS/799967.pdf?src-supplier=Jameco; ComponentLink6Description: http://www.jameco.com/Jameco/Products/ProdDS/799967.pdf?src-supplier=Jameco; ComponentLink7URL: https://www.verical.com/server-webapp/html/getDatasheet?partID=90414&src-supplier=Verical; ComponentLink7Description: https://www.verical.com/server-webapp/html/getDatasheet?partID=90414&src-supplier=Verical; ComponentLink8URL: http://www.onsemi.com/pub/Collateral/MMDL914T1-D.PDF?src-supplier=Avnet+Europe; ComponentLink8Description: http://www.onsemi.com/pub/Collateral/MMDL914T1-D.PDF?src-supplier=Avnet+Europe; Supplier Part Number 1: MMDL914T1GOSCT-ND
footprint SOD323 (Diode 1.7x1.25 mm)
pins: 1 A, 2 C

## MMPQ2907A
designator DA?
TRANS 4PNP 60V 0.6A 16SOIC; Manufacturer: ON Semiconductor / Fairchild; Max Power Dissipation: 1W; Max Collector Current: 600mA; hFE Min: 100; Polarity: PNP; Collector Base Voltage (VCBO): -60V; Emitter Base Voltage (VEBO): -5V; Transition Frequency: 250MHz; Number of Elements: 4; Supplier 1: Digi-Key; Manufacturer Part Number: MMPQ2907A; Stock 1: 5572; Pricing 1: 1=1.7, 10=1.529, 100=1.2287, 500=1.0095, 1000=0.8365 (USD); Mount: Surface Mount; Case/Package: SOIC; Number of Pins: 16; Weight: 0.143g; Min Operating Temperature: -55°C; Max Operating Temperature: 150°C; Packaging: Tape and Reel; Collector Emitter Voltage (VCEO): 60V; Package Quantity: 1; Collector Emitter Breakdown Voltage: 60V; Gain Bandwidth Product: 250MHz; Frequency: 250MHz; Max Frequency: 250MHz; Power Dissipation: 1W; Max Breakdown Voltage: 60V; Radiation Hardening: No; Lead Free: Lead Free; REACH SVHC: No SVHC; ComponentLink1URL: http://www.farnell.com/datasheets/1793268.pdf?src-supplier=Element14; ComponentLink1Description: http://www.farnell.com/datasheets/1793268.pdf?src-supplier=Element14; ComponentLink2URL: https://www.verical.com/server-webapp/html/getDatasheet?partID=91676&src-supplier=Verical; ComponentLink2Description: https://www.verical.com/server-webapp/html/getDatasheet?partID=91676&src-supplier=Verical; ComponentLink3URL: http://www.mouser.com/ds/2/149/MMPQ2907A-310101.pdf?src-supplier=Mouser; ComponentLink3Description: http://www.mouser.com/ds/2/149/MMPQ2907A-310101.pdf?src-supplier=Mouser; ComponentLink4URL: https://www.fairchildsemi.com/datasheets/MM/MMPQ2907A.pdf?src-supplier=Digi-Key; ComponentLink4Description: https://www.fairchildsemi.com/datasheets/MM/MMPQ2907A.pdf?src-supplier=Digi-Key; Supplier Part Number 1: MMPQ2907ACT-ND
footprint SOIC127P600X175-16N-MMPQ2907 (SOIC, 16-Leads, Body 10,00x3,90mm, Pitch 1,27mm, IPC Medium Density)
pins: B1, B2, B3, B4, C1, C1, C2, C2, C3, C3, C4, C4, E1, E2, E3, E4

## MMSD4148T1G
designator VD?
Smal signal diode; Voltage: 100V; Current: 0.3A; PartNo: MMSD4148T1G; Supplier 1: Digi-Key
footprint SOD123 (Diode 2.7x1.55 mm)
pins: 1 A, 2 C

## Molex 0732511350
designator XW?
Conn SMA RCP 50Ohm Solder ST SMD Gold Tray; Manufacturer: Molex; Manufacturer Part Number: 0732511350; Body Material: Brass; Dielectric Material: PTFE; Impedance: 50R; Connector Type: SMA,Socket; Gender: Female; Max Frequency: 18GHz; Voltage Rating: 500V; Supplier 1: Digi-Key; Stock 1: 7800; Pricing 1: 1=3.38, 10=3.247, 25=2.9768, 50=2.8414, 100=2.706, 250=2.3678, 500=2.3001, 1600=1.8942, 3200=1.8266 (USD); Mount: Surface Mount; Case/Package: SMA; Contact Plating: Gold; Contact Material: Copper; Body Plating: Gold; Insulation Material: Polytetrafluoroethylene; Housing Color: Gold; Min Operating Temperature: -65°C; Max Operating Temperature: 165°C; Packaging: Tray; Package Quantity: 1600; Termination: Solder; Orientation: Straight; Fastening Type: Threaded; Length: 6.35mm; Depth: 6.35mm; Radiation Hardening: No; ComponentLink1URL: http://www.molex.com/webdocs/datasheets/pdf/en-us/0732511350_RF_COAX_CONNECTORS.pdf?src-supplier=Avnet; ComponentLink1Description: http://www.molex.com/webdocs/datasheets/pdf/en-us/0732511350_RF_COAX_CONNECTORS.pdf?src-supplier=Avnet; ComponentLink2URL: https://www.verical.com/server-webapp/html/getDatasheet?partID=163592&src-supplier=Verical; ComponentLink2Description: https://www.verical.com/server-webapp/html/getDatasheet?partID=163592&src-supplier=Verical; ComponentLink3URL: https://www.molex.com/pdm_docs/ps/PS-89675-346.pdf?src-supplier=Digi-Key; ComponentLink3Description: https://www.molex.com/pdm_docs/ps/PS-89675-346.pdf?src-supplier=Digi-Key; Supplier Part Number 1: WM9357-ND
footprint Molex 0732511350 (SMA SMD connector)
pins: 1, 2
1 alternate drawing of the same symbol

## Molex-0735211352
designator X?, comment 0732511352
SMA SMT connector; PartNo: 0732511352; Supplier 1: Digi-Key; Supplier Part Number 1: WM9458-ND; Type: Solder
footprint Molex-0732511352 (SMA Female)
pins: 1, 2
text: Цепь; Конт.; СВЧ; GND

## MUC-20PFFR-JS8C01
designator XS?
Hermetical Micro-USB SMD; Type: *; PartNo: MUC-20PFFR-JS8C01; Supplier 1: Digi-Key; Supplier Part Number 1: APC1756-1-ND
footprint MUC-20PFFR-JS8C01
pins: 1, 2, 3, 4, 5
text: Цепь; Конт.; Vbus; DM; DP; ID; GND

## MUSBB15134
designator XS?
USB-mini на панель, герметичный; PartNo: MUSBB15134; Supplier 1: Digi-Key; Supplier Part Number 1: MUSBB15134-ND
footprint MUSBB15134
pins: 1, 2, 3, 4, 5, 6
text: Цепь; Конт.; Vbus; DM; DP; ID; GND; Экран

## NFM21PC
designator C?  value 1u  (hidden comment: *)
Конденсатор проходной 2.0x1.2 мм; Tolerance: 20%; Voltage: *; Type: *; PartNo: *; Supplier Part Number 1: *; Supplier 1: *
footprint CAPC2012X08-3PIN
pins: 1, 2, 3

## NUF2042XV6T1G
designator DA?
PartNo: *
footprint SOTFL50P160X155-6N (SOTFL, 6-Leads, Body 1.60x1.60mm, Pitch 0.50mm, IPC Medium Density)
pins: 1 D1i, 2 GND, 3 D2i, 4 D2o, 5 Vbus, 6 D1o

## PE43711A-Z
designator DA?
RF Digital step attenuator 9 kHz - 6 GHz. 0,25 - 31,75 dB; Supplier 1: Digi-Key; Supplier Part Number 1: 1046-1138-1-ND
footprint QFN50P400X400X85_HS-25N (QFN, 24-Leads, Body 4,00x4,00mm, Pitch 0,50mm, Thermal Pad 2,70x2,70mm, IPC Medium Density)
pins: 1 D0, 2 VDD, 3 ~{P}/S, 4 GND, 5 RF1, 6 GND, 7 GND, 8 GND, 9 GND, 10 GND, 11 GND, 12 GND, 13 GND, 14 RF2, 15 GND, 16 LE, 17 CLK, 18 SI, 19 D6, 20 D5, 21 D4, 22 D3, 23 D2, 24 D1, 25 GND
text: ATT; 31.75dB

## PESD1CAN
designator DA?, comment PESD1CAN-UX
Защита CAN линии; PartNo: PESD1CAN-UX; Supplier 1: Digi-Key; Supplier Part Number 1: 568-10731-1-ND
footprint SOT95P232X100-3N (SOT23, 3-Leads, Body 2.92x2.32mm, Pitch 0.95mm, IPC Medium Density)
pins: 1 C1, 2 C2, 3 GND

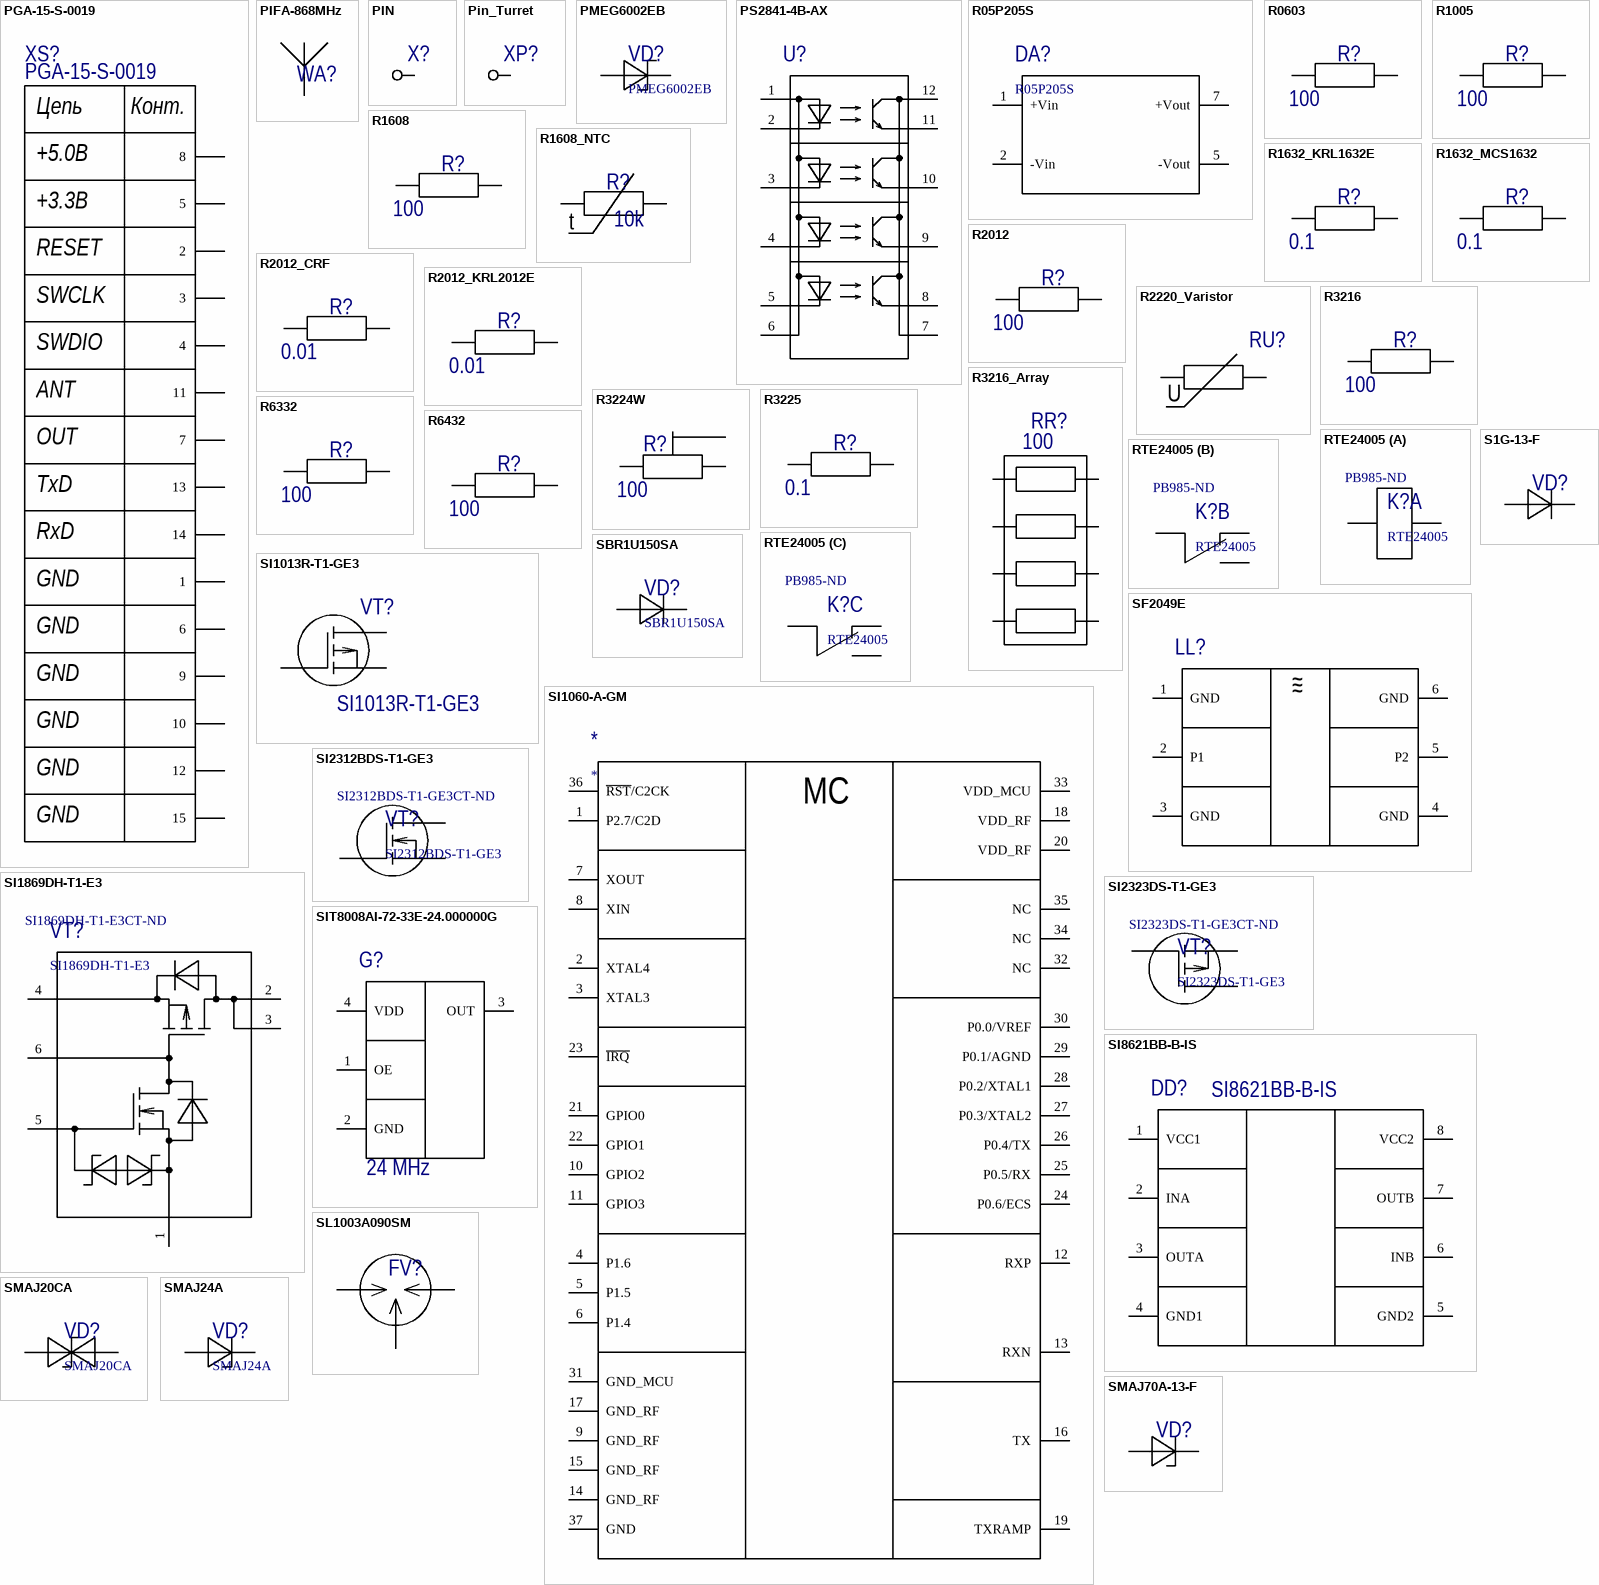
[diagram p8: symbols PGA-15-S-0019 to SMAJ70A-13-F]

## PGA-15-S-0019
designator XS?
Контактирующее устройство ПРМ-Б
footprint PGA-15-S-0019 без гайки (Контактирующее устройство без гайки Микросборки)
footprint PGA-15-S-0019 (Контактирующее устройство Микросборки)
pins: 1, 2, 3, 4, 5, 6, 7, 8, 9, 10, 11, 12, 13, 14, 15
text: Цепь; Конт.; +5.0В; +3.3В; RESET; SWCLK; SWDIO; ANT; OUT; TxD; RxD; GND

## PIFA-868MHz
designator WA?  (value not drawn)  (net tie, no BOM)
footprint PIFA-868MHz
pins: 1 A, 2 hidden to GND

## PIN
designator X?  (value not drawn)
footprint 1Pin
footprint 1Pin_МГТФ-0.5 (Силовой вывод под МГТФ 0.5)
footprint 1Pin_МГТФ-1.5 (Силовой вывод под МГТФ 1.5)
footprint 1Pin_МГТФ-0.07 (Силовой вывод под МГТФ 0.07)
footprint 1Pin_МС26-13-1.5 (Силовой вывод под МС26-13-1.5, Dmax - 2.3mm)
pins: 1

## Pin_Turret
designator XP?  (value not drawn)
РКД Наименование: *
footprint Keystone-1508-2 (Средний)
footprint Keystone-1528-2 (Самый тонкий)
footprint Keystone-1532-2 (Самый толстый)
footprint Keystone-1528-1 - no silk (Самый тонкий)
footprint Keystone-1508-1 - no silk (Средний)
pins: 1

## PMEG6002EB
designator VD?
Диод Шоттки, 60 В, 0.2 А; Voltage: 60V; Current: 0.2A; Supplier 1: Digi-Key; PartNo: PMEG6002EB; Supplier Part Number 1: 1727-5843-1-ND
footprint SODFL160X65-2N (SODFL, 2-Leads, Body 0.80x1.60mm, IPC Medium Density)
pins: 1 C, 2 A

## PS2841-4B-AX
designator U?  (value not drawn)
Optocoupler, 4 channel; PartNo: PS2841-4B-AX; Supplier 1: Digi-Key; Supplier Part Number 1: PS2841-4B-AX-ND
footprint SOP80P700X280-12N (SOP, 12-Leads, Body 5.60x4.40mm, Pitch 0.80mm, IPC Medium Density)
pins: 1 Anode, 2 C1, 3 C2, 4 C3, 5 C4, 6 Anode, 7 Collector, 8 E4, 9 E3, 10 E2, 11 E1, 12 Collector

## R05P205S
designator DA?
DC-DC 5V - 5V, 6kV; PartNo: R05P205S; Supplier 1: Digi-Key; Supplier Part Number 1: 945-1002-ND
footprint SIP-7 (RxxP2xxS DC-DC pattern)
pins: 1 +Vin, 2 -Vin, 5 -Vout, 7 +Vout

## R0603
designator R?  value 100  (hidden comment: R0603)
Резистор 0.6x0.3 мм; Tolerance: ±5%; РКД Наименование: RC0603M - 100 Ohm ±5%; Type: *; PartNo: *; Supplier 1: *; Supplier Part Number 1: *; Manufacturer Part Number: *
footprint RESC0603X02N (Chip Resistor, 2-Leads, Body 0.60x0.30mm, IPC Medium Density)
pins: 1, 2

## R1005
designator R?  value 100  (hidden comment: R1005)
Резистор 1.0x0.5 мм; Tolerance: ±5%; РКД Наименование: RC1005M - 100 Ohm ±5%; Type: *; PartNo: *; Supplier 1: *; Supplier Part Number 1: *; Manufacturer Part Number: *
footprint RESC1005X03L (Chip Resistor, 2-Leads, Body 1.00x0.50mm, IPC High Density)
footprint RESC1005X03N (Chip Resistor, 2-Leads, Body 1.00x0.50mm, IPC Medium Density)
pins: 1, 2

## R1608
designator R?  value 100  (hidden comment: R1608)
Резистор 1.6x0.8 мм; Tolerance: ±5%; РКД Наименование: RC1608M - 100 Ohm ±5%; Type: *; PartNo: *; Supplier 1: *; Supplier Part Number 1: *; Manufacturer Part Number: *
footprint RESC1608X05N (Chip Resistor, 2-Leads, Body 1.60x0.80mm, IPC Medium Density)
pins: 1, 2

## R1608_NTC
designator R?  value 10k  (hidden comment: R1608_NTC)
Резистор 1.6x0.8 мм; Tolerance: ±5%; Type: *; PartNo: *; Supplier 1: *; Supplier Part Number 1: *
footprint RESC1608X05N (Chip Resistor, 2-Leads, Body 1.60x0.80mm, IPC Medium Density)
pins: 1, 2
text: t

## R1632_KRL1632E
designator R?  value 0.1  (hidden comment: *)
Резистор 1.6x3.2 мм; Tolerance: ±5%; Type: *; PartNo: *; Supplier 1: Digi-Key; Supplier Part Number 1: *
footprint RESC3216X05N_KRL1632 (Chip Resistor, 2-Leads, Body 3.20x1.60mm, IPC Medium Density)
pins: 1, 2

## R1632_MCS1632
designator R?  value 0.1  (hidden comment: *)
Резистор 1.6x3.2 мм; Tolerance: ±1%; Power: 1.0W; Type: *; PartNo: *; Supplier 1: Digi-Key; Supplier Part Number 1: *
footprint RESC3216X06N-MSC1632 (Chip Resistor, 2-Leads, Body 3.20x1.60mm, IPC Medium Density)
pins: 1, 2

## R2012
designator R?  value 100  (hidden comment: R2012)
Резистор 2.0x1.2 мм; РКД Наименование: RC2012M - 100 Ohm ±5%; Type: *; PartNo: *; Supplier 1: *; Supplier Part Number 1: *; Manufacturer Part Number: *
footprint RESC2012X06N (Chip Resistor, 2-Leads, Body 2.00x1.25mm, IPC Medium Density)
pins: 1, 2

## R2012_CRF
designator R?  value 0.01  (hidden comment: R2012_CRF)
Резистор 2.0x1.2 мм; Tolerance: 1%; Type: *; PartNo: *; Supplier 1: *; Supplier Part Number 1: *
footprint RESC2012X06N-CFR (Chip Resistor, 2-Leads, Body 1.95x1.25mm, IPC Medium Density)
pins: 1, 2

## R2012_KRL2012E
designator R?  value 0.01  (hidden comment: *)
Резистор 2.0x1.2 мм; Tolerance: ±5%; Type: *; PartNo: *; Supplier 1: Digi-Key; Supplier Part Number 1: *
footprint RESC1220X05N_KRL2012 (Chip Resistor, 2-Leads, Body 1.25x2.00mm, IPC Medium Density)
pins: 1, 2

## R2220_Varistor
designator RU?  (value not drawn)
Резистор 1.6x0.8 мм; Tolerance: ±5%; Value: 56V; Type: *; PartNo: *; Supplier 1: Digi-Key; Supplier Part Number 1: *
footprint RESC5750X25N (Chip Resistor, 2-Leads, Body 5.70x5.00mm, IPC Medium Density)
pins: 1, 2
1 alternate drawing of the same symbol
text: U

## R3216
designator R?  value 100  (hidden comment: R3216)
Резистор 3.2x1.6 мм; Type: *; PartNo: *; Supplier 1: *; Supplier Part Number 1: *
footprint RESC3216X06N (Chip Resistor, 2-Leads, Body 3.20x1.60mm, IPC Medium Density)
pins: 1, 2

## R3216_Array
designator RR?  value 100  (hidden comment: R3216_Array)
Резисторы 3.2x1.6 мм; Tolerance: ±5%; Type: *; PartNo: *; Supplier 1: *; Supplier Part Number 1: *
footprint CAC-80P319X159-8N (Chip Array, ConvexS, 8-Leads, Pitch 0.80mm,  Body 3.20x1.60mm,  IPC Medium Density)
pins: 1, 2, 3, 4, 5, 6, 7, 8
1 alternate drawing of the same symbol

## R3224W
designator R?  value 100  (hidden comment: R3224W)
Подстроечный резистор вертикальный; Type: *; PartNo: *; Supplier 1: *; Supplier Part Number 1: *
footprint R3224W (Подстроечный резистор)
pins: 1 CCW, 2 W, 3 CW

## R3225
designator R?  value 0.1  (hidden comment: R3225)
Резистор 3.2x2.5 мм; Type: *; PartNo: *; Supplier 1: *; Supplier Part Number 1: *
footprint RESC3225X06N (Chip Resistor, 2-Leads, Body 3.20x2.50mm, IPC Medium Density)
pins: 1, 2

## R6332
designator R?  value 100  (hidden comment: R6332)
Резистор 6.3x3.2 мм; Tolerance: ±5%; Type: *; PartNo: *; Supplier 1: *; Supplier Part Number 1: *
footprint RESC6332X06N (Chip Resistor, 2-Leads, Body 6.30x3.20mm, IPC Medium Density)
pins: 1, 2

## R6432
designator R?  value 100  (hidden comment: R6432)
Резистор 6.4x3.2 мм; Type: *; PartNo: *; Supplier 1: *; Supplier Part Number 1: *
footprint RESC6432X07N (Chip Resistor, 2-Leads, Body 6.4x3.2mm, IPC Medium Density)
pins: 1, 2

## RTE24005
designator K?  Supplier Part Number 1: PB985-ND
Реле силовое. 5В, 8А-250VAC; Supplier 1: Digi-Key; PartNo: *
footprint RT2 Relay
part A pins: A1, A2
part B pins: 11, 12, 14
part C pins: 21, 22, 24

## S1G-13-F
designator VD?  (value not drawn)
DIODE GEN PURP 400V 1A SMA; Manufacturer: Diodes; Element Configuration: Single; Max Surge Current: 30A; Forward Voltage: 1.1V; Peak Reverse Current: 5uA; Reverse Recovery Time: 3us; Recovery Time: 1.8us; Polarity: Standard; Capacitance: 10pF; Supplier 1: Digi-Key; Manufacturer Part Number: S1G-13-F; Stock 1: 1383326; Pricing 1: 1=0.28, 10=0.231, 100=0.1227, 500=0.0807, 1000=0.0549 (USD); Mount: Surface Mount; Case/Package: SMA; Number of Pins: 2; Weight: 0.002258oz; Contact Plating: Tin,Matte; Min Operating Temperature: -65°C; Max Operating Temperature: 150°C; Packaging: Tape and Reel; Forward Current: 1A; Package Quantity: 5000; Max Repetitive Reverse Voltage (Vrrm): 400V; Peak Non-Repetitive Surge Current: 30A; Average Rectified Current: 1A; Max Reverse Voltage (DC): 400V; Voltage Rating (DC): 400V; Current Rating: 1A; Output Current: 1A; Max Forward Surge Current (Ifsm): 30A; Reverse Voltage (DC): 400V; Termination: SMD/SMT; Length: 4.6mm; Height: 2.1mm; Width: 2.92mm; Radiation Hardening: No; Lead Free: Lead Free; REACH SVHC: No SVHC; ComponentLink1URL: http://www.farnell.com/datasheets/1911706.pdf?src-supplier=Element14; ComponentLink1Description: http://www.farnell.com/datasheets/1911706.pdf?src-supplier=Element14; ComponentLink2URL: http://www.mouser.com/ds/2/115/ds16003-83672.pdf?src-supplier=Mouser; ComponentLink2Description: http://www.mouser.com/ds/2/115/ds16003-83672.pdf?src-supplier=Mouser; Supplier Part Number 1: S1G-FDICT-ND
footprint DIOM4326X26N (Molded Diode, 2-Leads, Body 4,30x2,61mm, IPC Medium Density)
pins: 1 C, 2 A

## SBR1U150SA
designator VD?
SMD Super Barrier Rectifier; Voltage: 150V; Current: 1A; PartNo: SBR1U150SA; Supplier 1: Digi-Key; Supplier Part Number 1: SBR1U150SA-13DICT-ND
footprint SMA-Diode (Molded Diode, 2-Leads, Body 4.30x2.60mm, IPC Medium Density)
pins: 1 A, 2 C

## SF2049E
designator LL?  (value not drawn)
SAW Filter, 915 MHz; PartNo: 0900PC15J0013; Supplier 1: Digi-Key; Supplier Part Number 1: *
footprint SM3030-6
pins: 1 GND, 2 P1, 3 GND, 4 GND, 5 P2, 6 GND
text: ~

## SI1013R-T1-GE3
designator VT?
MOSFET P-channel; РКД Наименование: SI1013R-T1-GE3 транзистор P-канал; PartNo: SI1013R-T1-GE3; Supplier 1: Digi-Key; Supplier Part Number 1: SI1013R-T1-GE3CT-ND
footprint SOT50P160X80-3N (SC-75A, 3-Leads, Body 1,58x1,60mm, Pitch 0,50mm, IPC Medium Density)
pins: 1 G, 2 S, 3 D
1 alternate drawing of the same symbol

## SI1060-A-GM
designator *
pins: 1 P2.7/C2D, 2 XTAL4, 3 XTAL3, 4 P1.6, 5 P1.5, 6 P1.4, 7 XOUT, 8 XIN, 9 GND_RF, 10 GPIO2, 11 GPIO3, 12 RXP, 13 RXN, 14 GND_RF, 15 GND_RF, 16 TX, 17 GND_RF, 18 VDD_RF, 19 TXRAMP, 20 VDD_RF, 21 GPIO0, 22 GPIO1, 23 ~{IRQ}, 24 P0.6/ECS, 25 P0.5/RX, 26 P0.4/TX, 27 P0.3/XTAL2, 28 P0.2/XTAL1, 29 P0.1/AGND, 30 P0.0/VREF, 31 GND_MCU, 32 NC, 33 VDD_MCU, 34 NC, 35 NC, 36 ~{RST}/C2CK, 37 GND
text: MC

## SI1869DH-T1-E3
designator VT?  Supplier Part Number 1: SI1869DH-T1-E3CT-ND
Транзисторная сборка, ключ верхнего уровня; PartNo: *; Supplier 1: Digi-Key
footprint SOT65P210X100-6N (SOT323, 6-Leads, Body 2.00x2.10mm, Pitch 0.65mm, IPC Medium Density)
pins: 1 R2, 2 D2, 3 D2, 4 S2, 5 ON/OFF, 6 R1C1

## SI2312BDS-T1-GE3
designator VT?  Supplier Part Number 1: SI2312BDS-T1-GE3CT-ND
MOSFET N-channel; PartNo: *; Supplier 1: Digi-Key
footprint SOT95P232X100-3N (SOT23, 3-Leads, Body 2.92x2.32mm, Pitch 0.95mm, IPC Medium Density)
pins: 1 G, 2 S, 3 D

## SI2323DS-T1-GE3
designator VT?  Supplier Part Number 1: SI2323DS-T1-GE3CT-ND
MOSFET P-channel; PartNo: *; Supplier 1: Digi-Key
footprint SOT95P232X100-3N (SOT23, 3-Leads, Body 2.92x2.32mm, Pitch 0.95mm, IPC Medium Density)
pins: 1 G, 2 S, 3 D

## SI8621BB-B-IS
designator DD?
Цифровой изолятор; PartNo: SI8621BB-B-IS; Supplier 1: Digi-Key; Supplier Part Number 1: 336-2570-ND
footprint SOIC127P600X175-8N (SOIC, 8-Leads, Body 4.90x3.90mm, Pitch 1.27mm, IPC Medium Density)
pins: 1 VCC1 (power), 2 INA, 3 OUTA, 4 GND1, 5 GND2 (power), 6 INB, 7 OUTB, 8 VCC2 (power)
1 alternate drawing of the same symbol

## SIT8008AI-72-33E-24.000000G
designator G?  value 24 MHz  (hidden comment: SIT8008AI-72-33E-24.000000G)
MEMS 24 MHz; PartNo: SIT8008AI-72-33E-24.000000G; Supplier 1: Digi-Key; Supplier Part Number 1: 1473-1166-1-ND
footprint SiT8008_2016
pins: 1 OE, 2 GND, 3 OUT, 4 VDD

## SL1003A090SM
designator FV?  (value not drawn)
Разрядник 90В; PartNo: SL1003A090SM; Digikey: *; Supplier 1: Digi-Key; Supplier Part Number 1: F3409CT-ND
footprint GDT-SL1003A (Разрядник LittleFuse)
pins: 1, 2, 3

## SMAJ20CA
designator VD?
TVS, 20V, 400W; PartNo: SMAJ20CA; Supplier 1: Digi-Key; Supplier Part Number 1: SMAJ20CABCT-ND; Voltage: 20V
footprint SMA-Diode (Molded Diode, 2-Leads, Body 4.30x2.60mm, IPC Medium Density)
pins: 1, 2

## SMAJ24A
designator VD?
TVS, 24V, 400W; PartNo: SMAJ24A; Supplier 1: Digi-Key; Supplier Part Number 1: SMAJ24A-E3/61GICT-ND
footprint SMA-Diode (Molded Diode, 2-Leads, Body 4.30x2.60mm, IPC Medium Density)
pins: 1, 2

## SMAJ70A-13-F
designator VD?  (value not drawn)
TVS Diodes - Transient Voltage Suppressors 400W 7.0V; Direction: Unidirectional; Max Surge Current: 40A; Reverse Standoff Voltage: 70V; Min Breakdown Voltage: 77.8V; Clamping Voltage: 113V; Test Current: 1mA; Peak Pulse Current: 3.5A; Number of Unidirectional Channels: 1; Power Line Protection: No; Max Reverse Leakage Current: 200uA; Element Configuration: Single; Max Breakdown Voltage: 86V; Supplier 1: Digi-Key; Manufacturer: Diodes; Manufacturer Part Number: SMAJ70A-13-F; Stock 1: 15441; Pricing 1: 1=0.41, 10=0.311, 100=0.1937, 500=0.1326, 1000=0.102 (USD); Mount: Surface Mount; Case/Package: SMA; Number of Pins: 2; Min Operating Temperature: -55°C; Max Operating Temperature: 150°C; Package Quantity: 5000; Packaging: Tape and Reel; Peak Pulse Power: 400W; Polarity: Unidirectional; Breakdown Voltage: 77.8V; Reverse Breakdown Voltage: 77.8V; Number of Elements: 1; Leakage Current: 200uA; Composition: Zener; Termination: SMD/SMT; Power Dissipation: 400W; Voltage Rating (DC): 70V; Max Power Dissipation: 400W; Working Voltage: 70V; Length: 2.92mm; Height: 2.3mm; Width: 4.6mm; Radiation Hardening: No; Lead Free: Lead Free; Supplier Part Number 1: SMAJ70A-FDICT-ND
footprint SMA-Diode (Molded Diode, 2-Leads, Body 4.30x2.60mm, IPC Medium Density)
pins: 1, 2

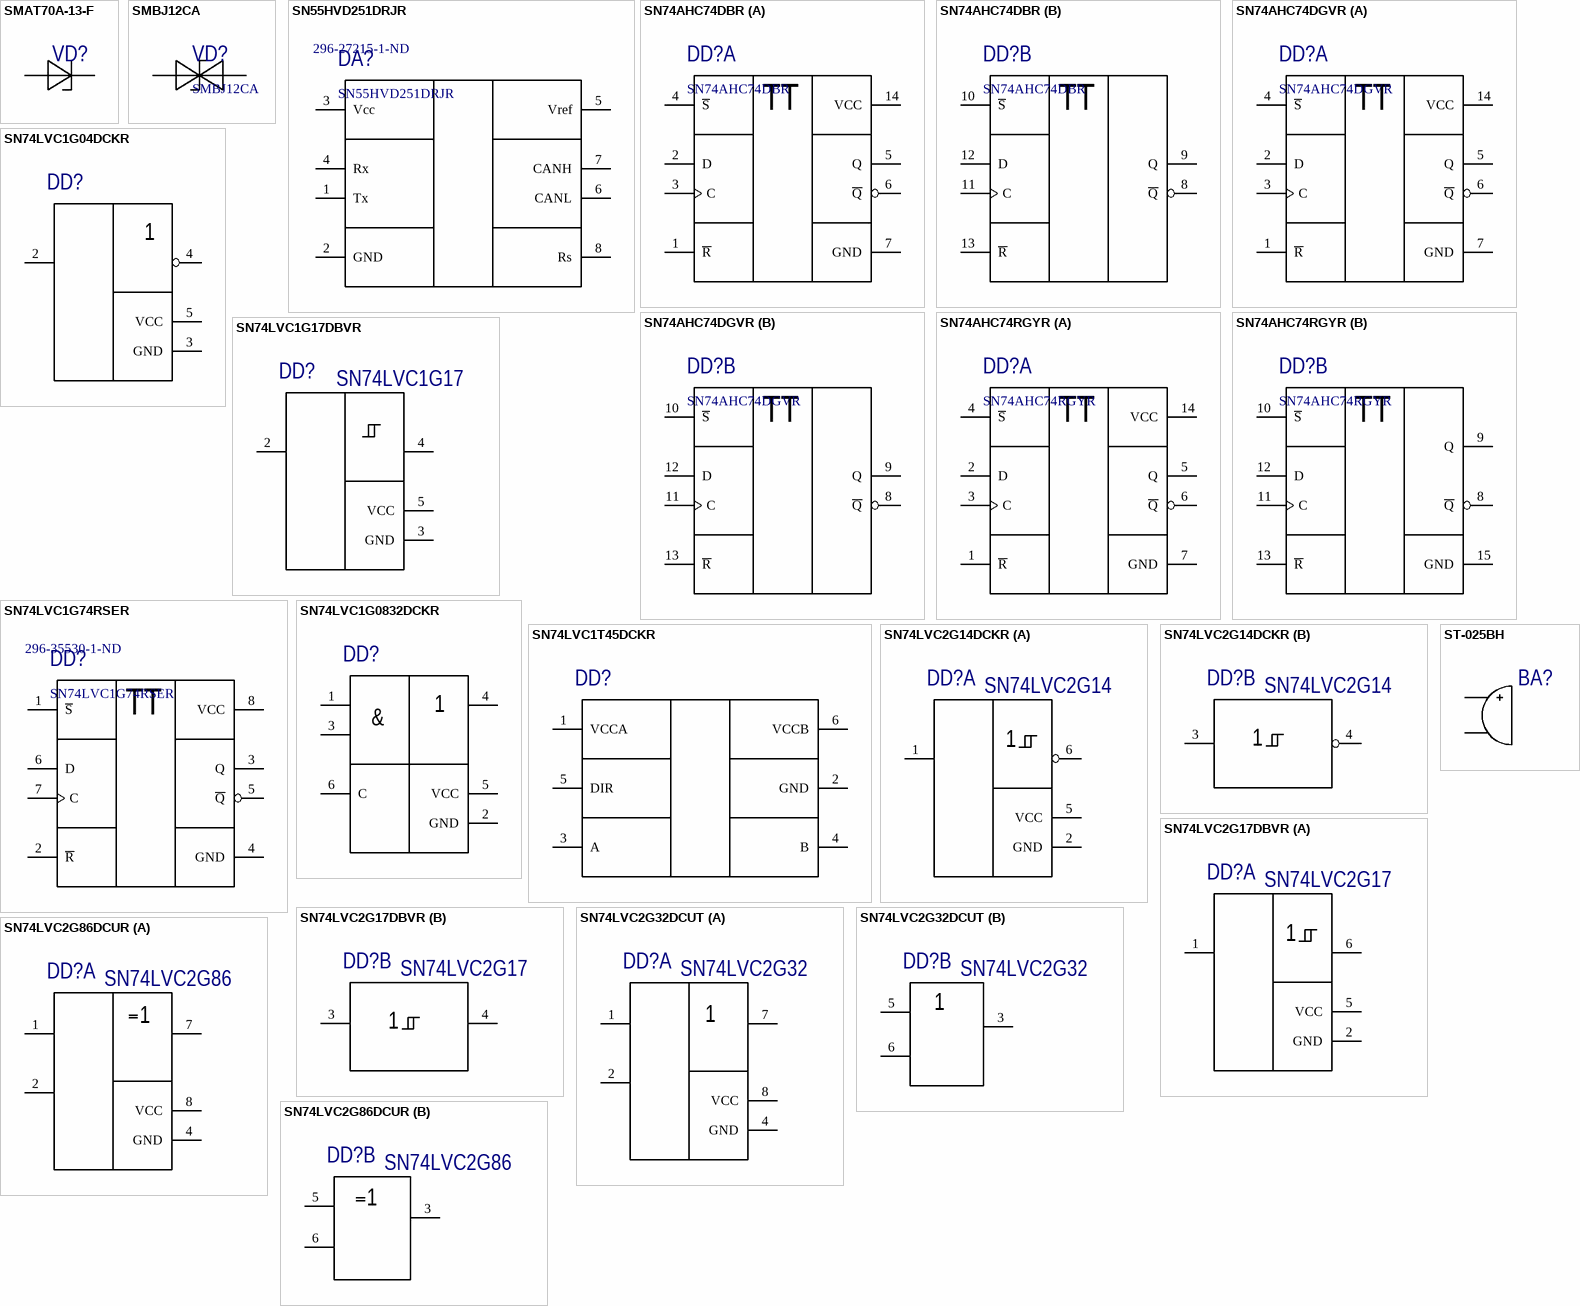
[diagram p9: symbols SMAT70A-13-F to ST-025BH]

## SMAT70A-13-F
designator VD?
footprint SMA-Diode (Molded Diode, 2-Leads, Body 4.30x2.60mm, IPC Medium Density)
pins: 1, 2

## SMBJ12CA
designator VD?
TVS; PartNo: SMBJ12CA; Supplier 1: Digi-Key; Supplier Part Number 1: SMBJ12CABCT-ND
footprint DIOM4336X24N (Molded Diode, 2-Leads, Body 4.31x3.62mm, IPC Medium Density)
pins: 1, 2

## SN55HVD251DRJR
designator DA?  Supplier Part Number 1: 296-27215-1-ND
CAN tranceiver; PartNo: *; Supplier 1: Digi-Key
pins: 1 Tx, 2 GND, 3 Vcc, 4 Rx, 5 Vref, 6 CANL, 7 CANH, 8 Rs

## SN74AHC74DBR
designator DD?
Dual Positive-Edge-Triggered D-Type Flip-Flop; PartNo: SN74AHC74DBR; Supplier 1: Digi-Key; Supplier Part Number 1: 296-4621-1-ND
part A pins: 1 ~{R}, 2 D, 3 C, 4 ~{S}, 5 Q, 6 ~{Q}, 7 GND (power), 14 VCC (power)
part B pins: 8 ~{Q}, 9 Q, 10 ~{S}, 11 C, 12 D, 13 ~{R}
part A text: TT
part B text: TT

## SN74AHC74DGVR
designator DD?
Dual Positive-Edge-Triggered D-Type Flip-Flop; PartNo: SN74AHC74DGVR; Supplier 1: Digi-Key; Supplier Part Number 1: 296-4622-1-ND
footprint TSSOP40P640X120-14N (TSSOP, 14-Leads, Body 3.60x4.40mm, Pitch 0.40mm, IPC Medium Density)
part A pins: 1 ~{R}, 2 D, 3 C, 4 ~{S}, 5 Q, 6 ~{Q}, 7 GND (power), 14 VCC (power)
part B pins: 8 ~{Q}, 9 Q, 10 ~{S}, 11 C, 12 D, 13 ~{R}
part A text: TT
part B text: TT

## SN74AHC74RGYR
designator DD?
Dual Positive-Edge-Triggered D-Type Flip-Flop; PartNo: SN74AHC74RGYR; Supplier 1: Digi-Key; Supplier Part Number 1: 296-13904-1-ND
footprint QFN50P350X350X100_HS-15N (QFN, 14-Leads, Body 3.50x3.50mm, Pitch 1.50mm/0.50mm, Thermal Pad 2.05x2.05mm, IPC Medium Density)
part A pins: 1 ~{R}, 2 D, 3 C, 4 ~{S}, 5 Q, 6 ~{Q}, 7 GND (power), 14 VCC (power)
part B pins: 8 ~{Q}, 9 Q, 10 ~{S}, 11 C, 12 D, 13 ~{R}, 15 GND (power)
part A text: TT
part B text: TT